# Altium schematic symbol library Schlib_Rockchip.SchLib: 4 symbols
Pins are listed as number, name and electrical type; pins without a type are passive.

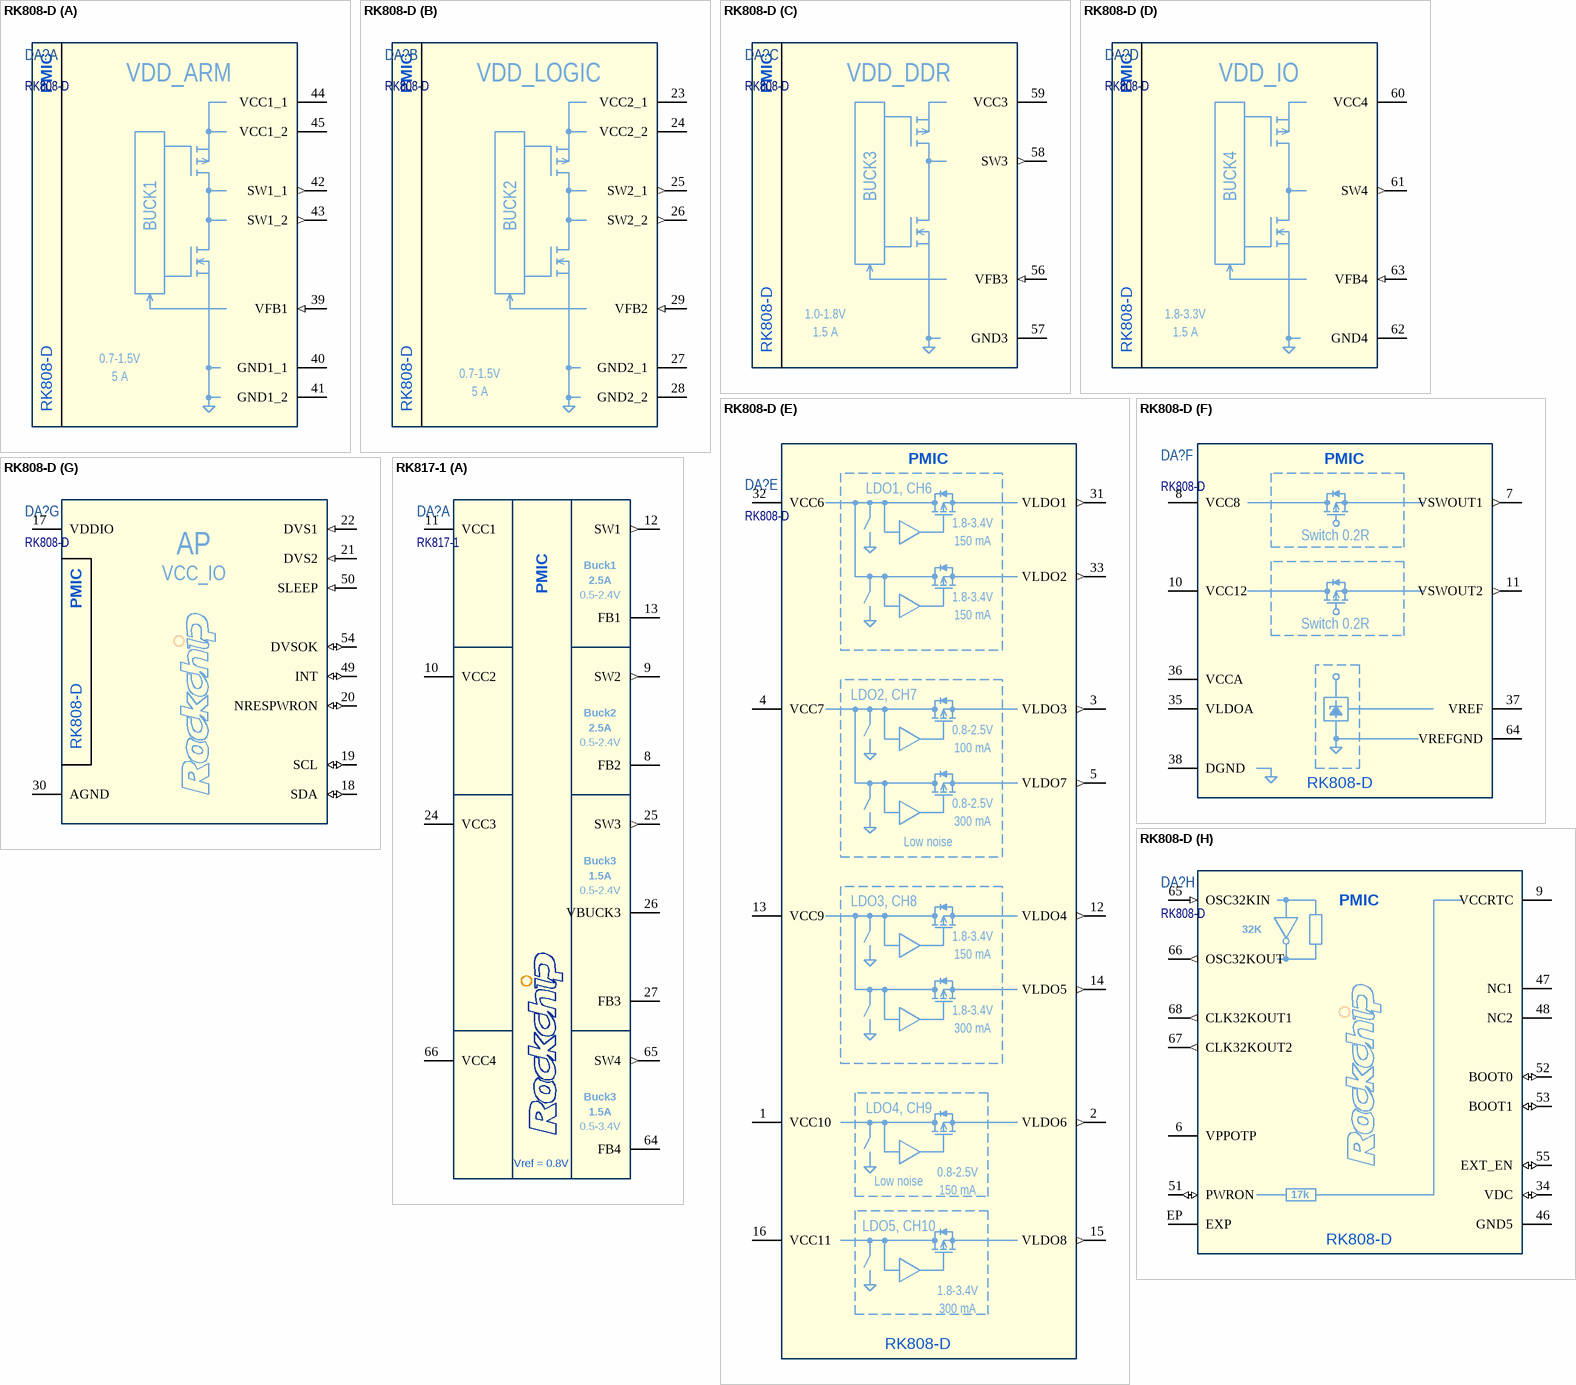
[diagram p0: symbols RK808-D to RK817-1]

## RK808-D
designator DA?
PMIC; Manufacturer: Fuzhou Rockchip Electronics Co; Part Number: RK808-D; Package: QFN-68 (p = 0.35mm)
footprint QFN68_RK8xx (Power QFN 7mm x 7mm, 0.35mm pitch, for RockChip PMIC RK8xx)
part A pins: 39 VFB1 (in), 40 GND1_1 (power), 41 GND1_2 (power), 42 SW1_1 (out), 43 SW1_2 (out), 44 VCC1_1 (power), 45 VCC1_2 (power)
part B pins: 23 VCC2_1 (power), 24 VCC2_2 (power), 25 SW2_1 (out), 26 SW2_2 (out), 27 GND2_1 (power), 28 GND2_2 (power), 29 VFB2 (in)
part C pins: 56 VFB3 (in), 57 GND3 (power), 58 SW3 (out), 59 VCC3 (power)
part D pins: 60 VCC4 (power), 61 SW4 (out), 62 GND4 (power), 63 VFB4 (in)
part E pins: 1 VCC10 (power), 2 VLDO6 (out), 3 VLDO3 (out), 4 VCC7 (power), 5 VLDO7 (out), 12 VLDO4 (out), 13 VCC9 (power), 14 VLDO5 (out), 15 VLDO8 (out), 16 VCC11 (power), 31 VLDO1 (out), 32 VCC6 (power), 33 VLDO2 (out)
part F pins: 7 VSWOUT1 (out), 8 VCC8 (power), 10 VCC12 (power), 11 VSWOUT2 (out), 35 VLDOA (power), 36 VCCA (power), 37 VREF (power), 38 DGND (power), 64 VREFGND (power)
part G pins: 17 VDDIO (power), 18 SDA (io), 19 SCL (io), 20 NRESPWRON (io), 21 DVS2 (in), 22 DVS1 (in), 30 AGND (power), 49 INT (io), 50 SLEEP (in), 54 DVSOK (io)
part H pins: 6 VPPOTP (power), 9 VCCRTC (power), 34 VDC (io), 46 GND5 (power), 47 NC1 (hiz), 48 NC2 (hiz), 51 PWRON (io), 52 BOOT0 (io), 53 BOOT1 (io), 55 EXT_EN (io), 65 OSC32KIN (in), 66 OSC32KOUT (out), 67 CLK32KOUT2 (out), 68 CLK32KOUT1 (out), EP EXP (power)
part A text: VDD_ARM; BUCK1; 5 A; 0.7-1.5V
part B text: VDD_LOGIC; BUCK2; 5 A; 0.7-1.5V
part C text: VDD_DDR; BUCK3; 1.5 A; 1.0-1.8V
part D text: VDD_IO; BUCK4; 1.5 A; 1.8-3.3V
part E text: LDO1, CH6; 150 mA; 1.8-3.4V; LDO2, CH7; 100 mA; 0.8-2.5V; 300 mA; Low noise; LDO3, CH8; LDO4, CH9; LDO5, CH10
part F text: Switch 0.2R
part G text: AP; VCC_IO
part H text: 32K; 17k

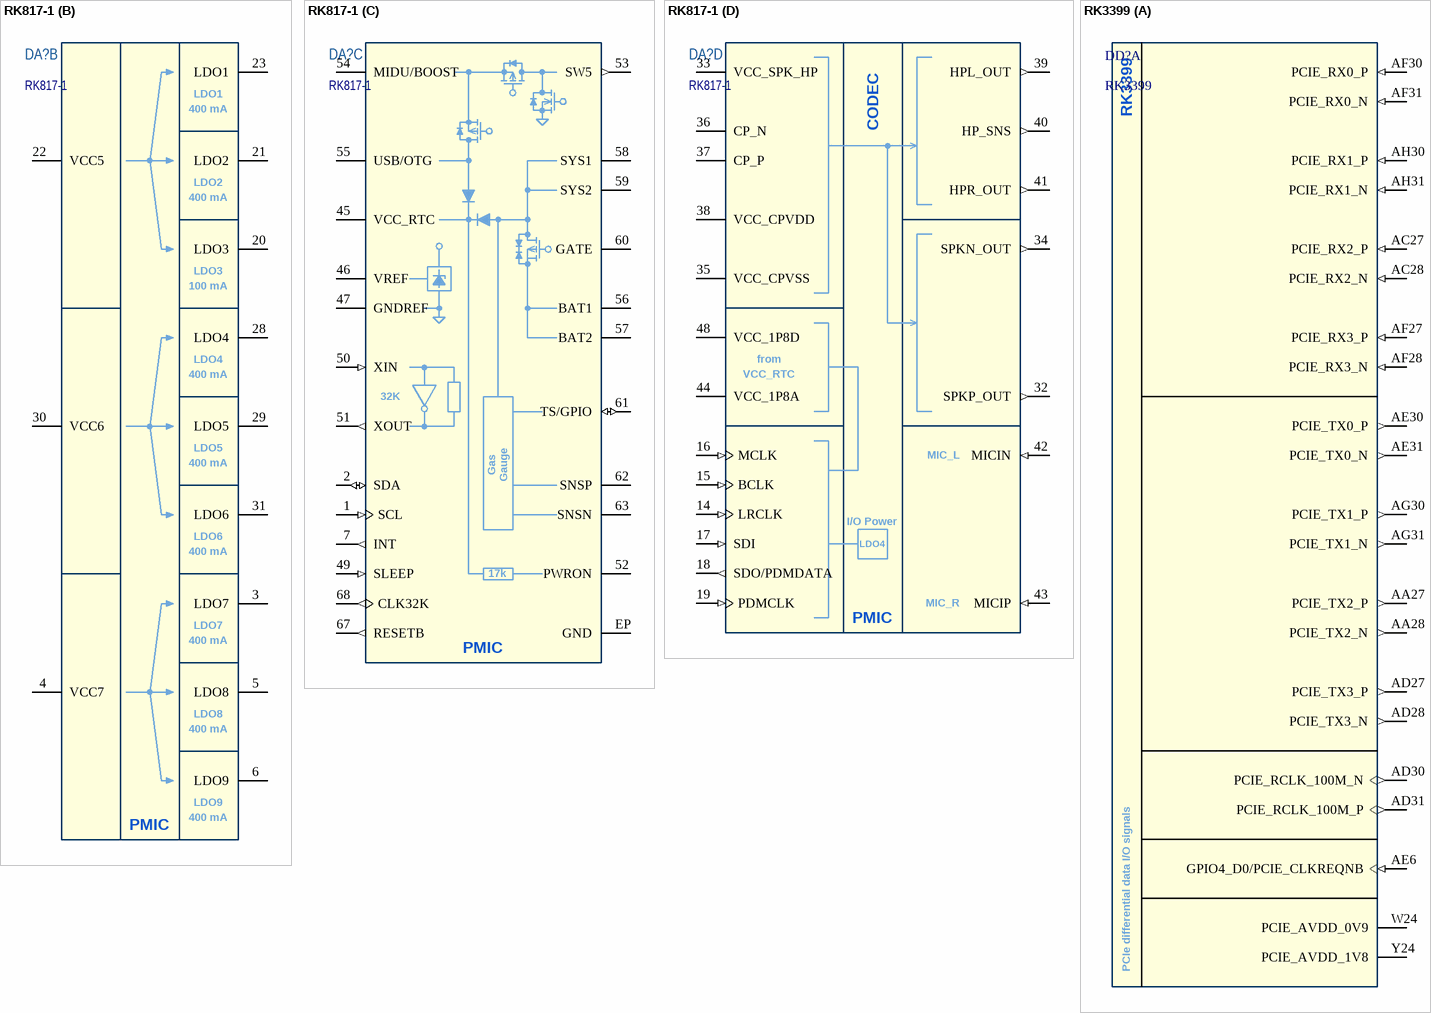
[diagram p1: symbols RK817-1 to RK3399]

## RK817-1
designator DA?
PMIC; Manufacturer: Fuzhou Rockchip Electronics Co; Part Number: RK817-1; Package: QFN-68 (p = 0.35mm)
footprint QFN68_RK8xx (Power QFN 7mm x 7mm, 0.35mm pitch, for RockChip PMIC RK8xx)
part A pins: 8 FB2, 9 SW2 (out), 10 VCC2 (power), 11 VCC1 (power), 12 SW1 (out), 13 FB1, 24 VCC3 (power), 25 SW3 (out), 26 VBUCK3, 27 FB3, 64 FB4, 65 SW4 (out), 66 VCC4 (power)
part B pins: 3 LDO7 (power), 4 VCC7 (power), 5 LDO8 (power), 6 LDO9 (power), 20 LDO3 (power), 21 LDO2 (power), 22 VCC5 (power), 23 LDO1 (power), 28 LDO4 (power), 29 LDO5 (power), 30 VCC6 (power), 31 LDO6 (power)
part C pins: 1 SCL (in), 2 SDA (io), 7 INT (out), 45 VCC_RTC (power), 46 VREF, 47 GNDREF, 49 SLEEP (in), 50 XIN (in), 51 XOUT (out), 52 PWRON, 53 SW5 (out), 54 MIDU/BOOST (power), 55 USB/OTG (power), 56 BAT1 (power), 57 BAT2 (power), 58 SYS1 (power), 59 SYS2 (power), 60 GATE, 61 TS/GPIO (io), 62 SNSP, 63 SNSN, 67 RESETB (out), 68 CLK32K (out), EP GND (power)
part D pins: 14 LRCLK (in), 15 BCLK (in), 16 MCLK (in), 17 SDI (in), 18 SDO/PDMDATA (out), 19 PDMCLK (in), 32 SPKP_OUT (out), 33 VCC_SPK_HP (power), 34 SPKN_OUT (out), 35 VCC_CPVSS (power), 36 CP_N, 37 CP_P, 38 VCC_CPVDD (power), 39 HPL_OUT (out), 40 HP_SNS (out), 41 HPR_OUT (out), 42 MICIN (in), 43 MICIP (in), 44 VCC_1P8A (power), 48 VCC_1P8D (power)
part A text: 2.5A; Buck1; 0.5-2.4V; Buck2; 1.5A; Buck3; 0.5-3.4V; Vref = 0.8V
part B text: 400 mA; 100 mA
part C text: 32K; Gas; Gauge; 17k
part D text: CODEC; from; MIC_L; I/O Power; MIC_R

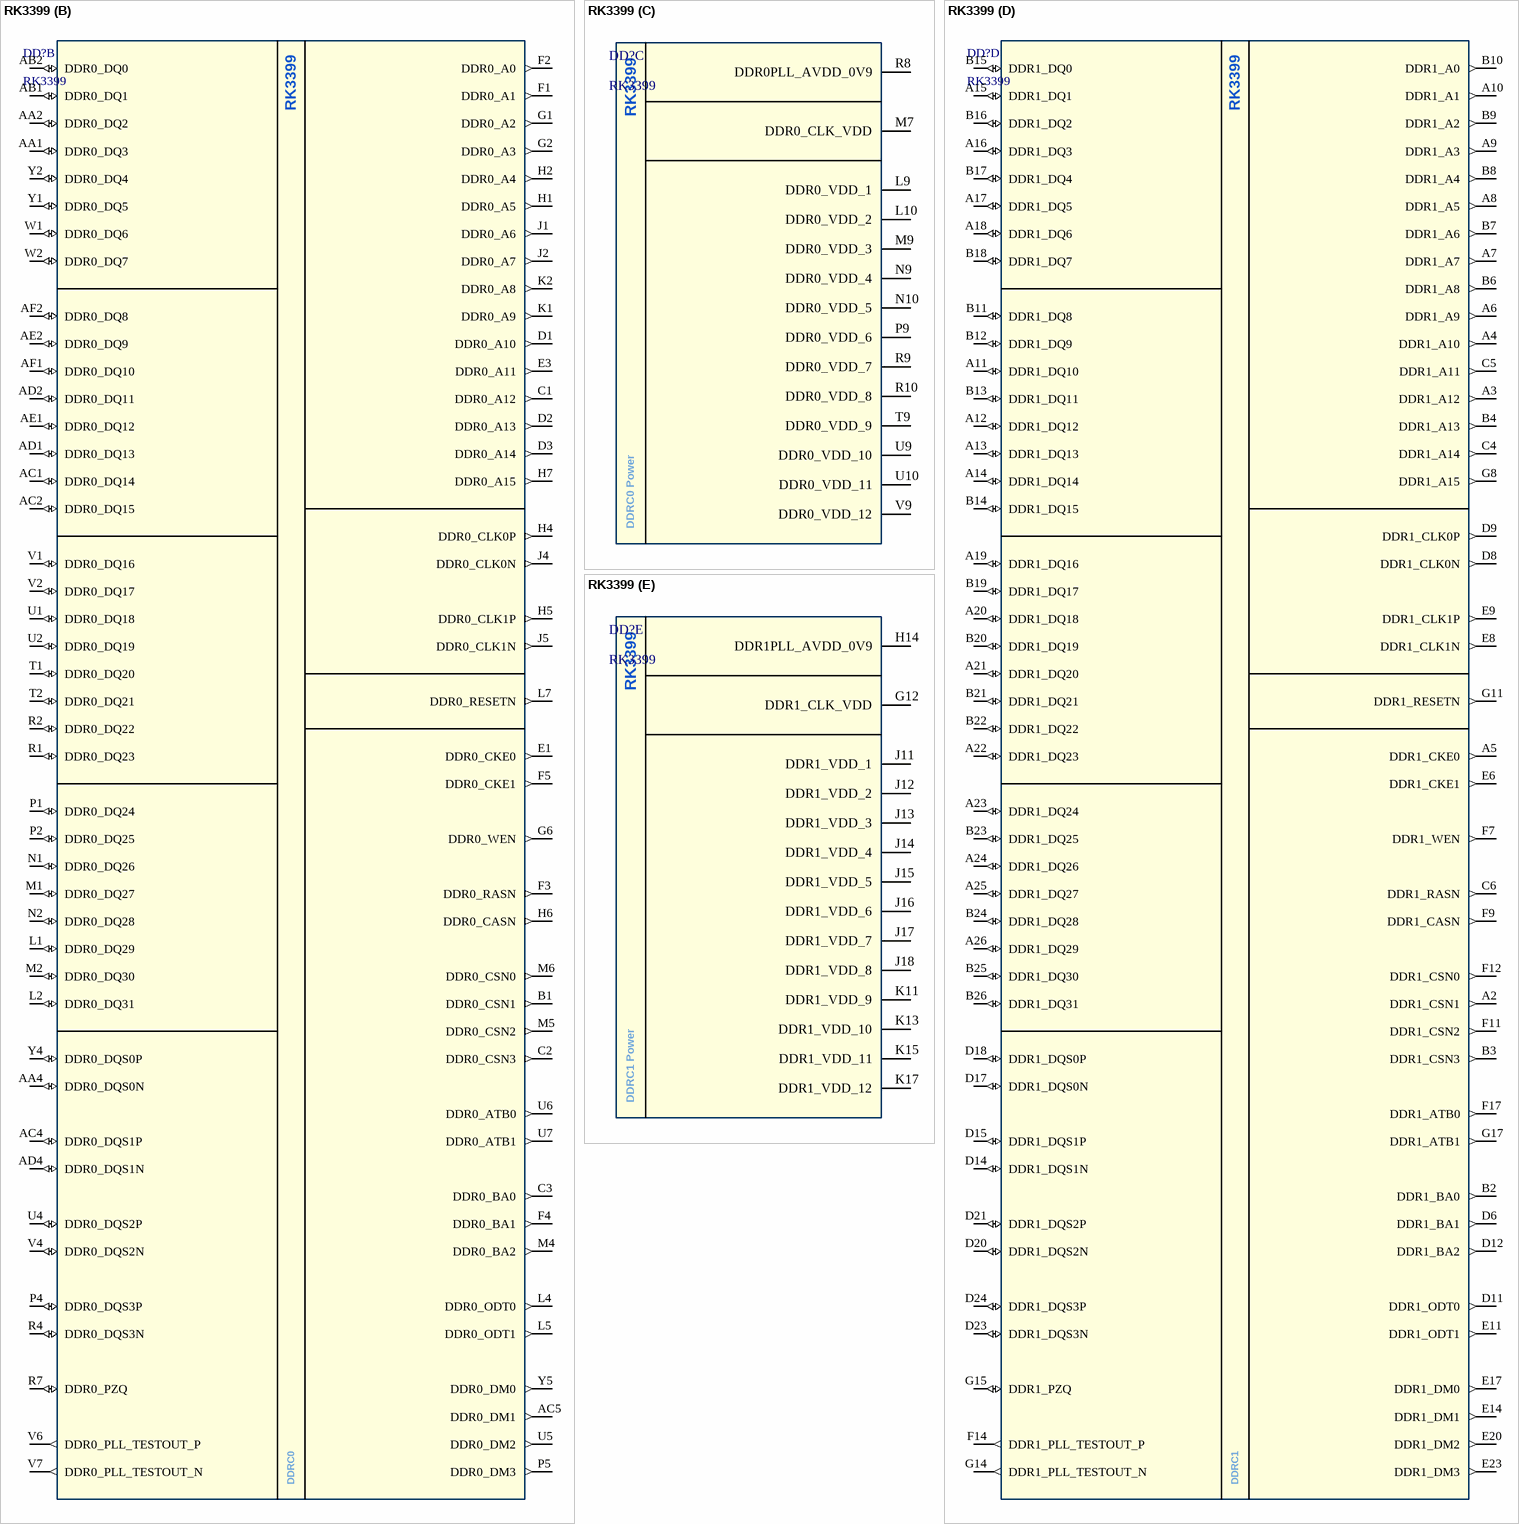
[diagram p2: symbol RK3399]

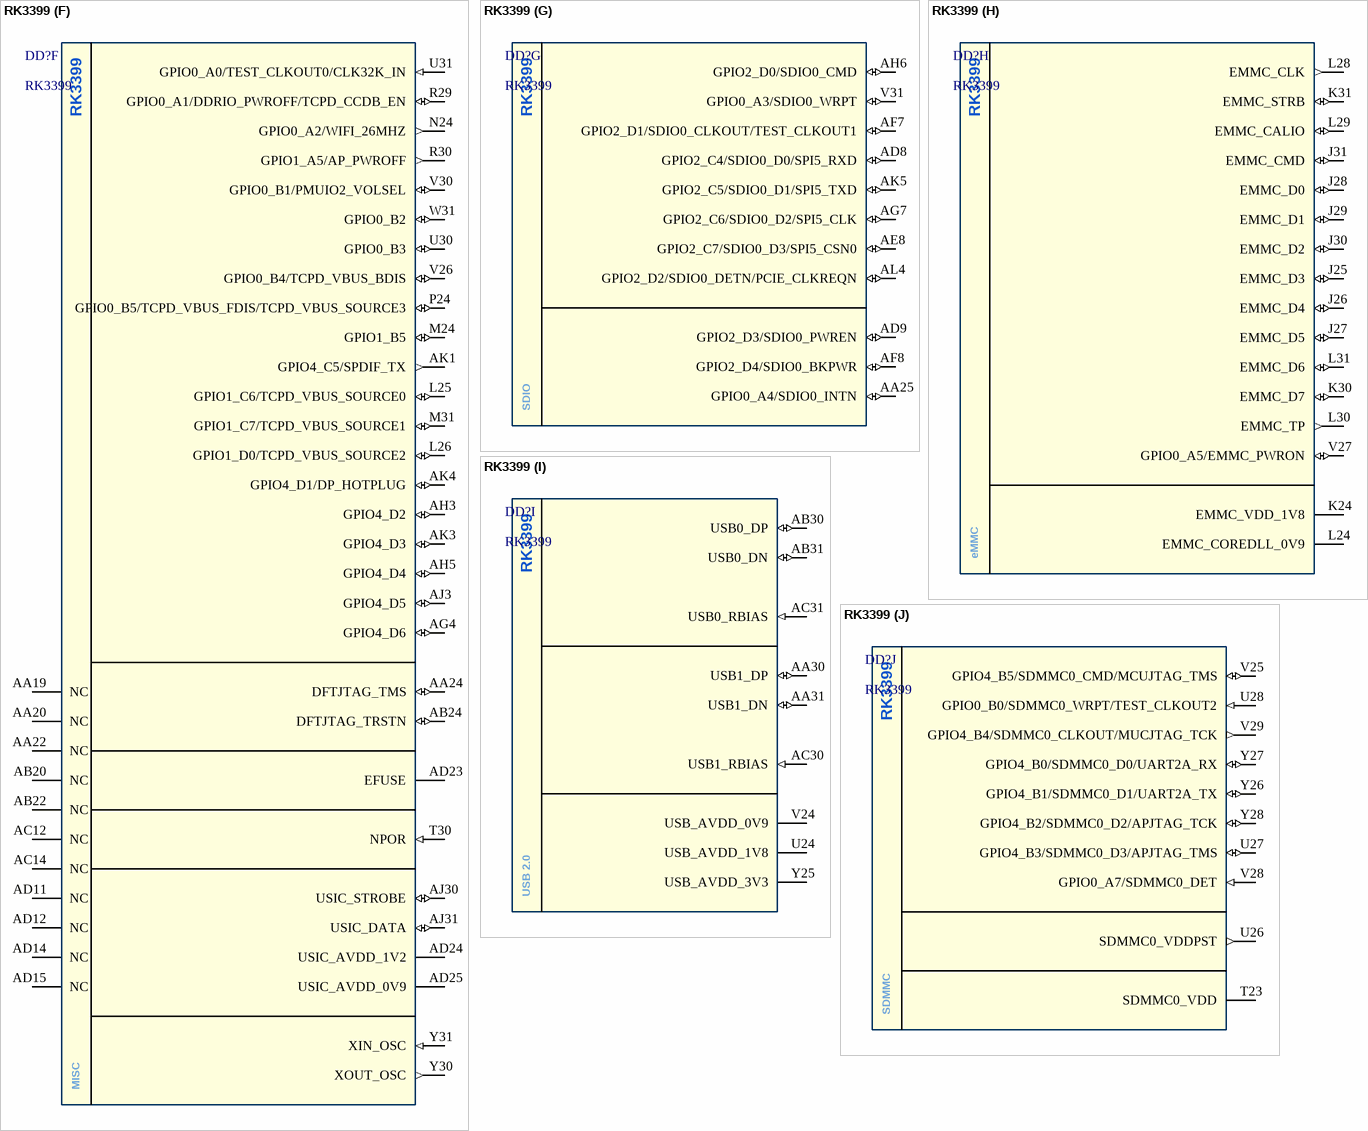
[diagram p3: symbol RK3399]

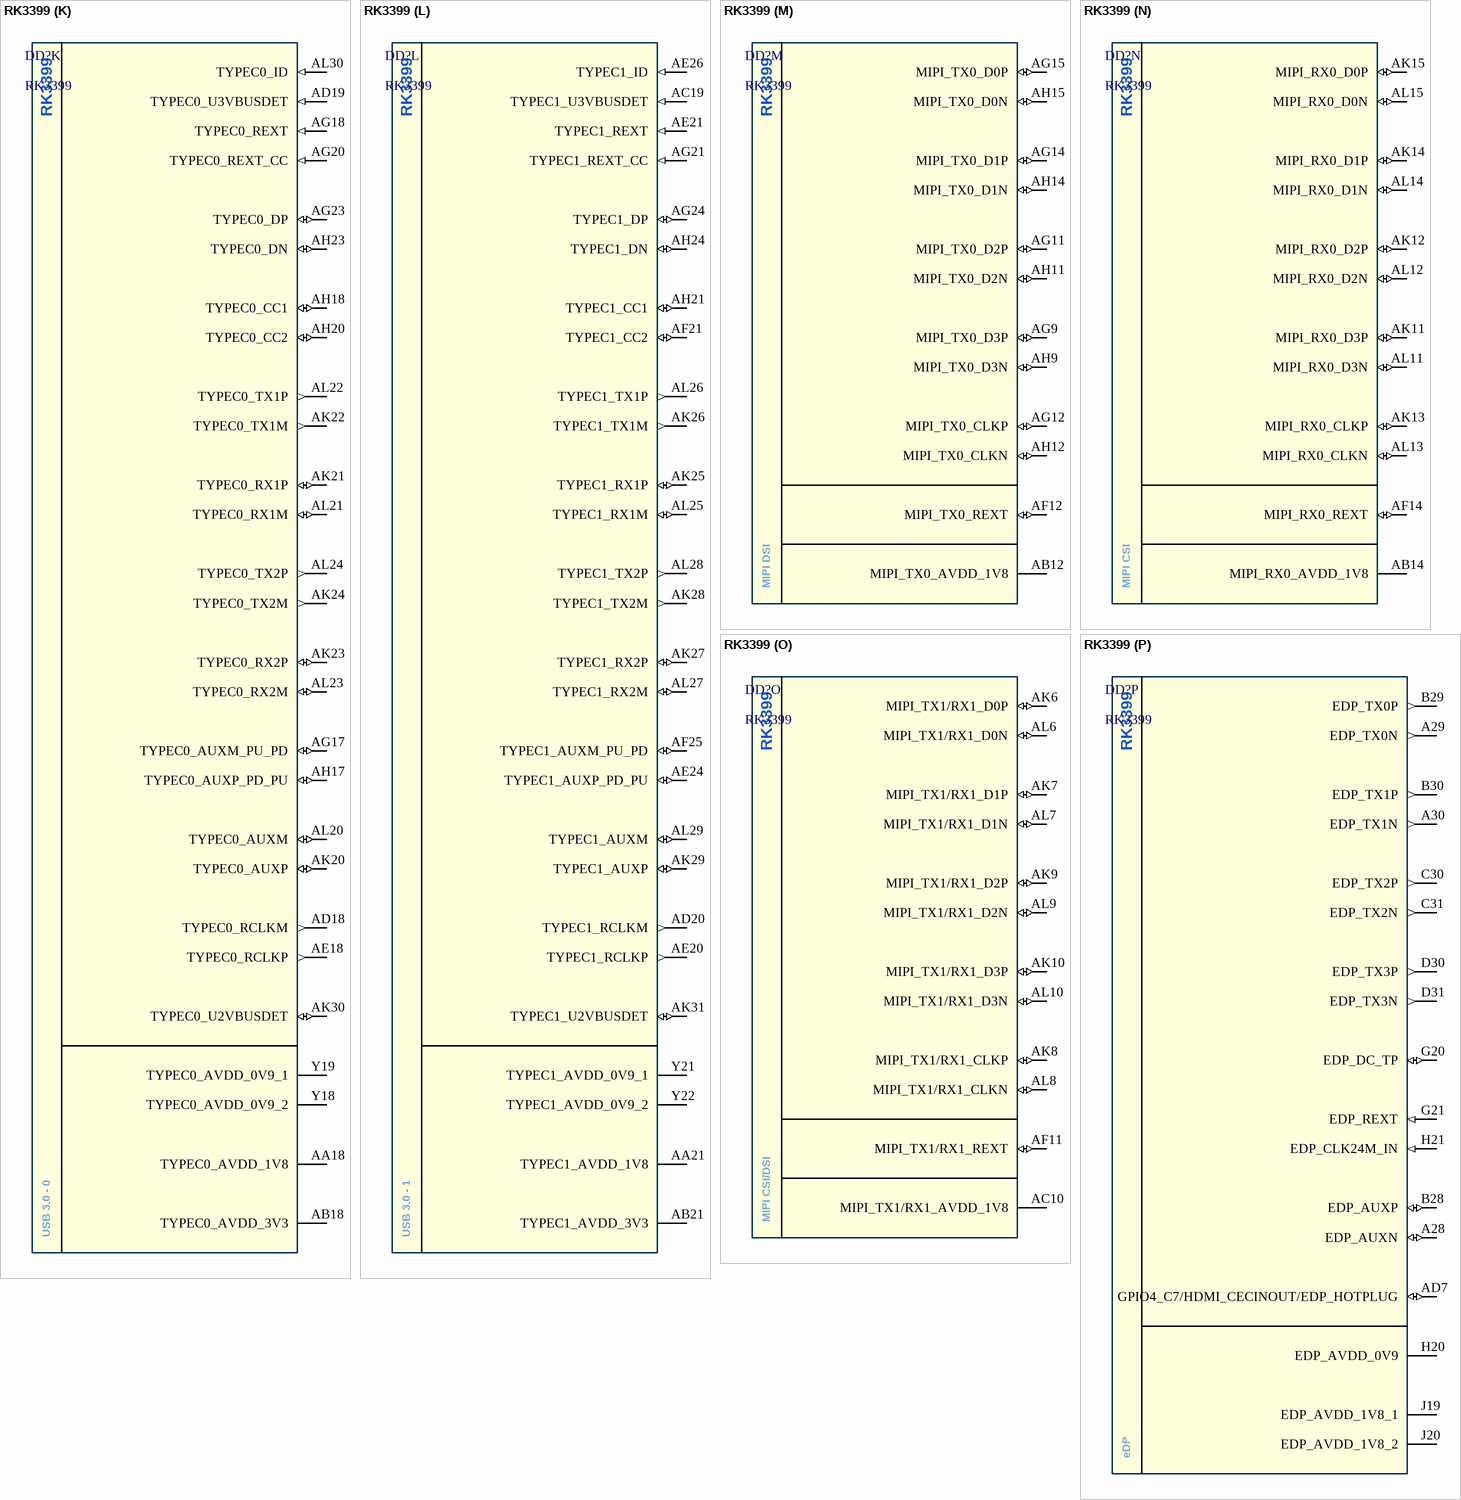
[diagram p4: symbol RK3399]

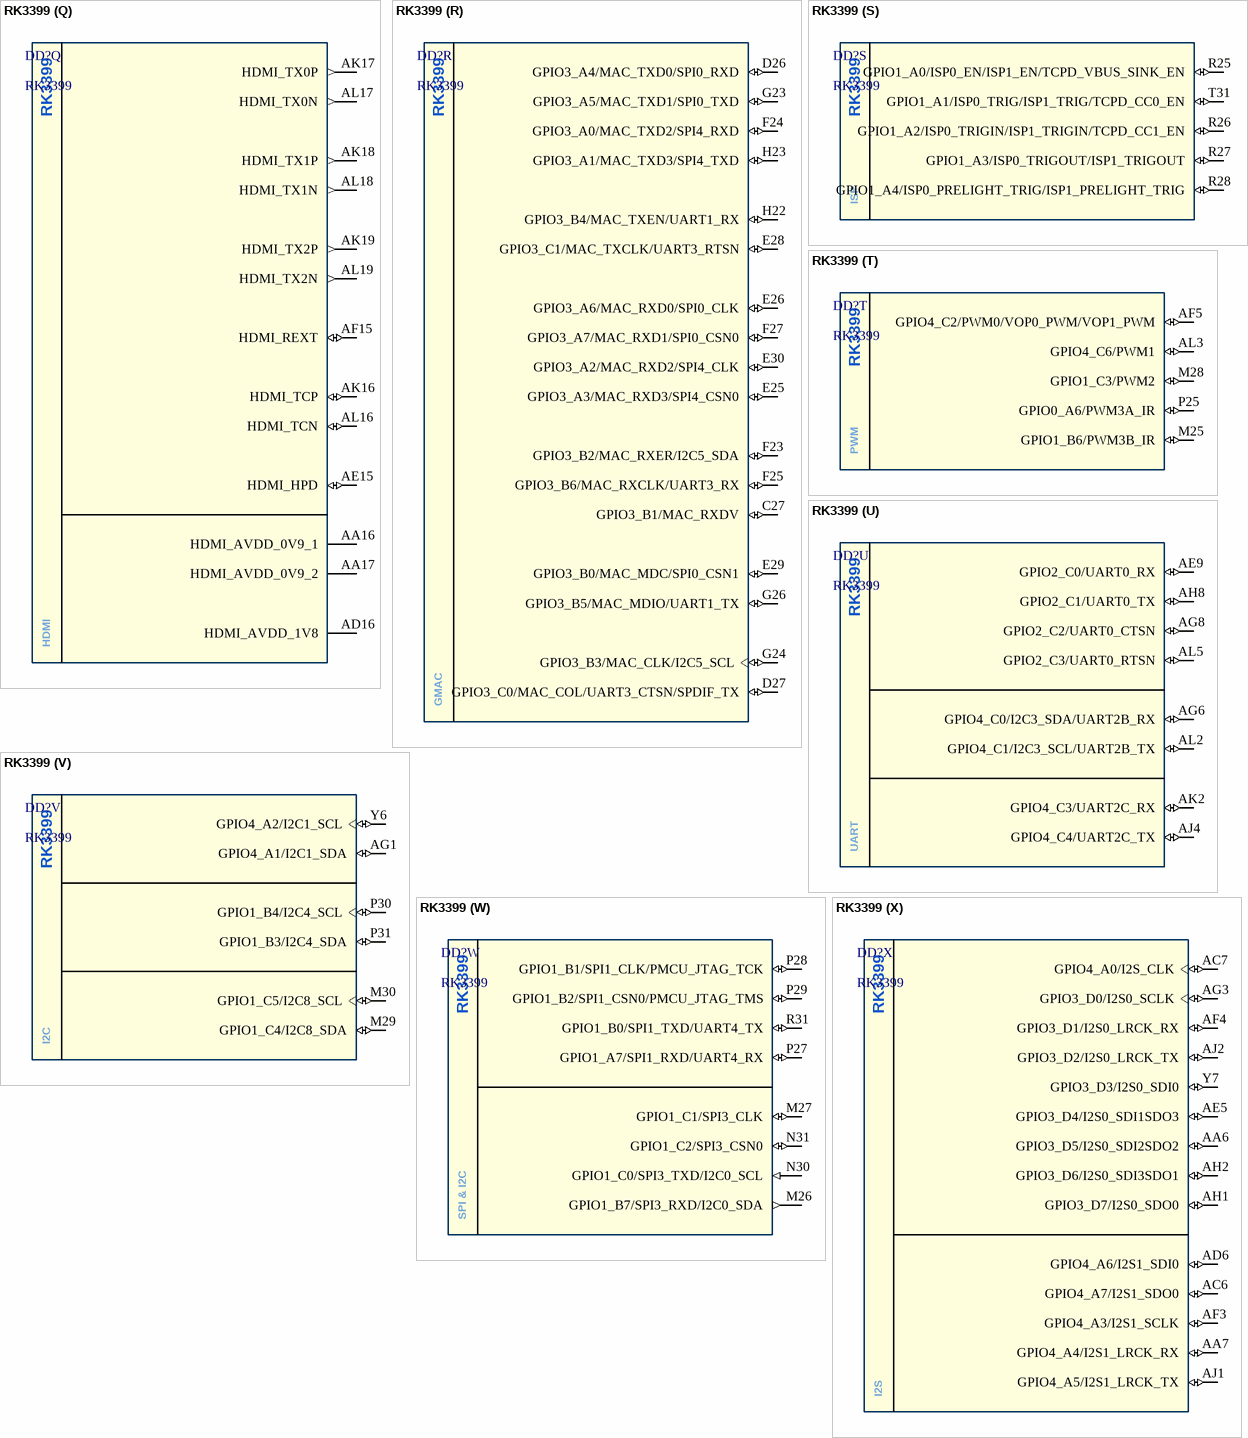
[diagram p5: symbol RK3399]

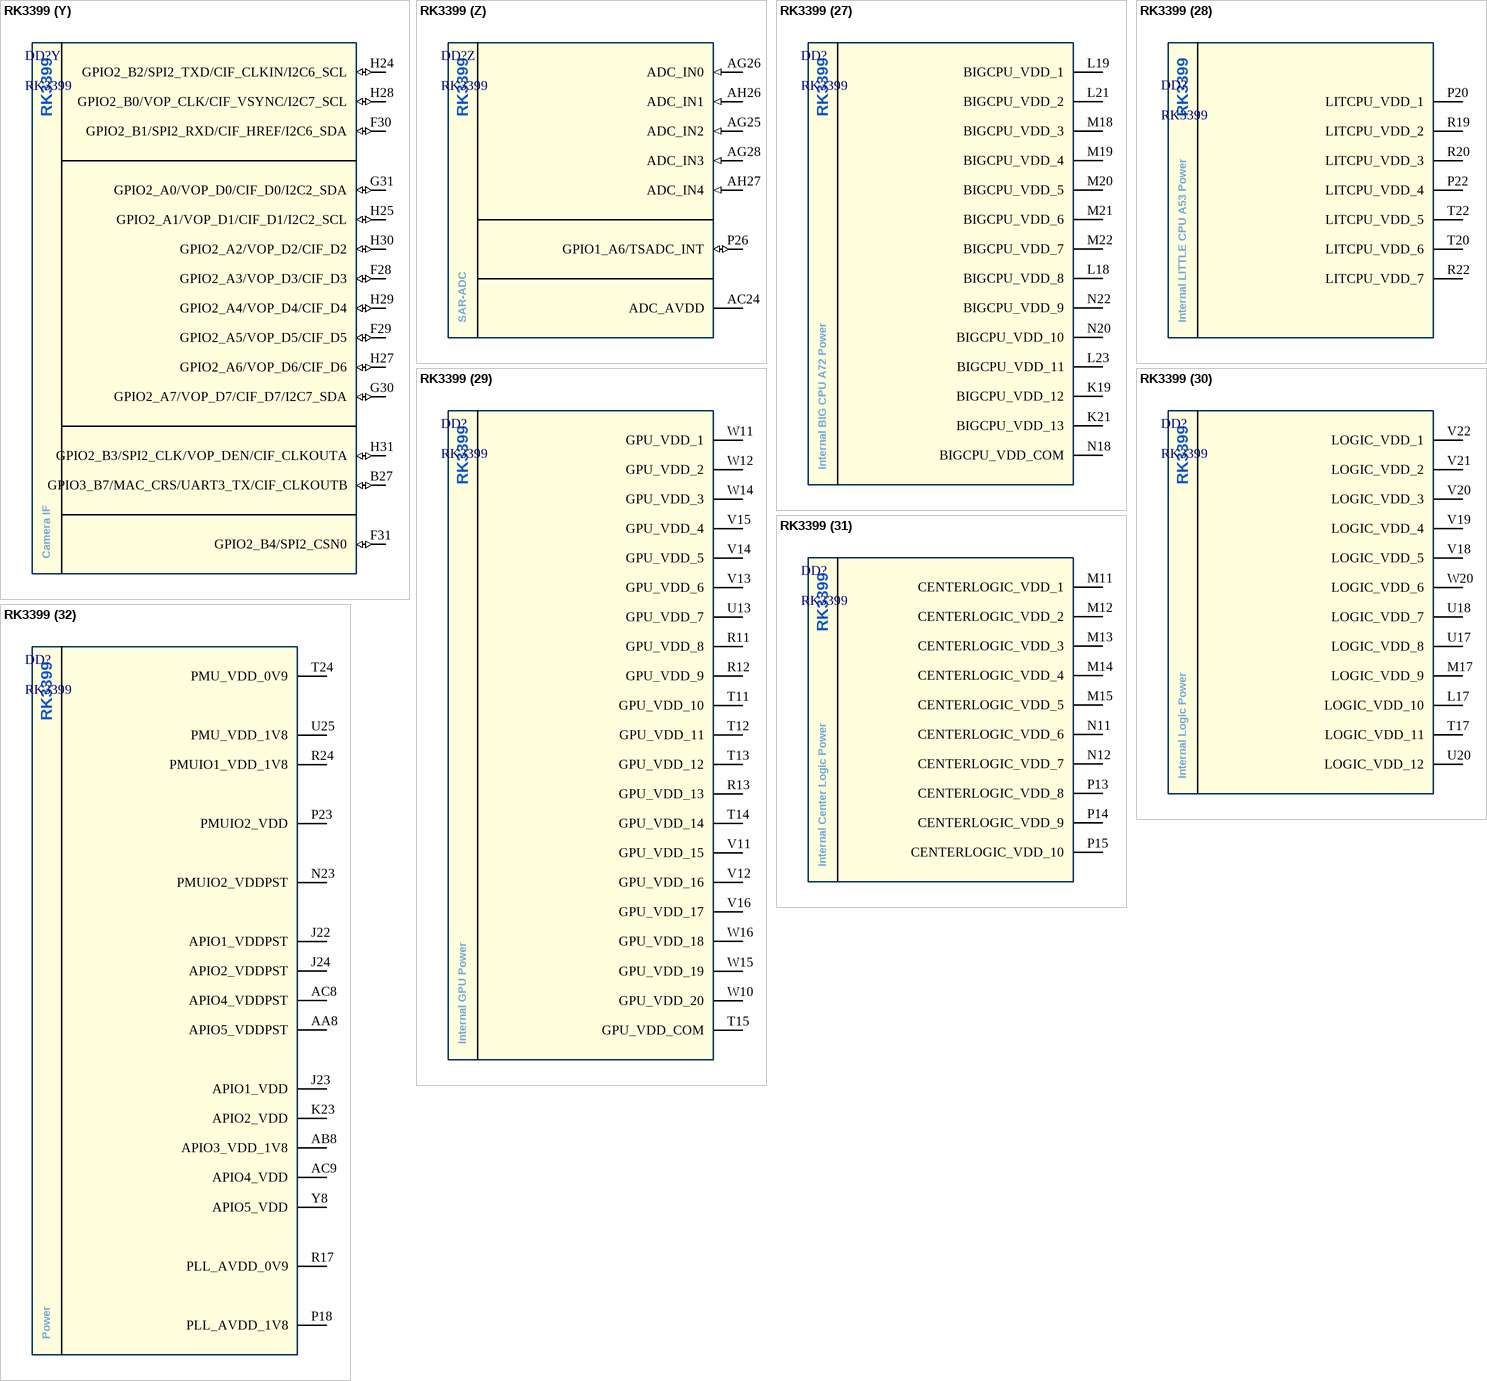
[diagram p6: symbol RK3399]

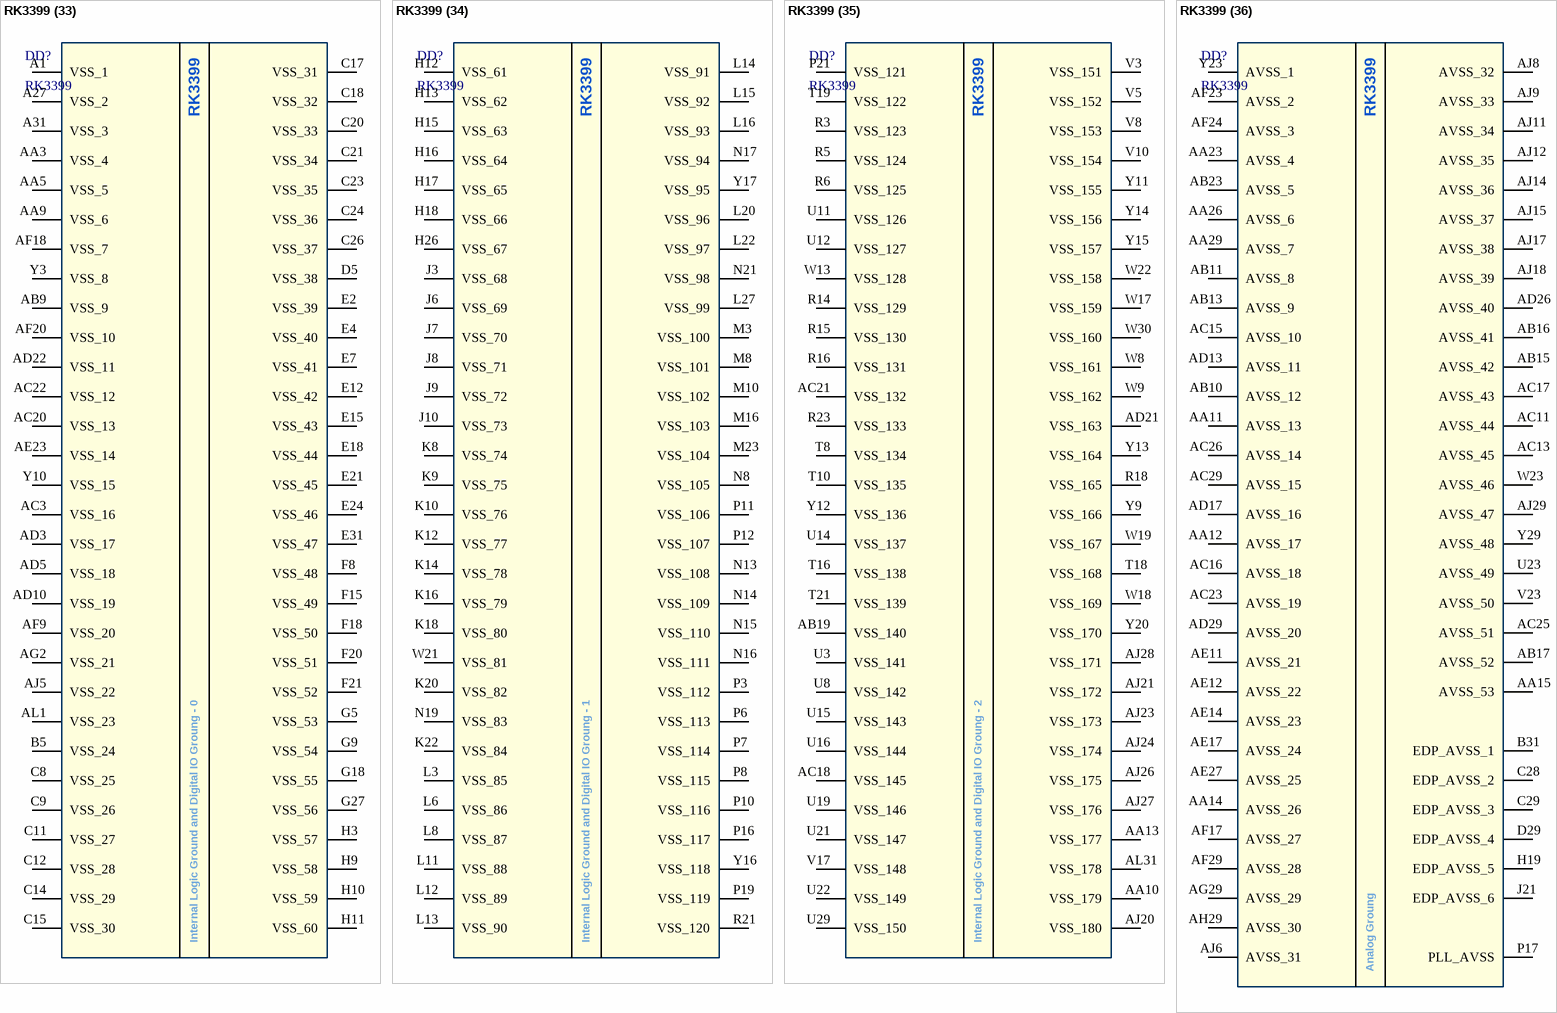
[diagram p7: symbol RK3399]

## RK3399
designator DD?
Quad Cortex A53 and Dual Cortex A72 Embedded CPU; Manufacturer: Fuzhou Rockchip Electronics Co; Package: FCBGA-828; Part Number: RK3399
footprint FCBGA828_RK3399
part A pins: AA27 PCIE_TX2_P (out), AA28 PCIE_TX2_N (out), AC27 PCIE_RX2_P (in), AC28 PCIE_RX2_N (in), AD27 PCIE_TX3_P (out), AD28 PCIE_TX3_N (out), AD30 PCIE_RCLK_100M_N (out), AD31 PCIE_RCLK_100M_P (out), AE6 GPIO4_D0/PCIE_CLKREQNB (in), AE30 PCIE_TX0_P (out), AE31 PCIE_TX0_N (out), AF27 PCIE_RX3_P (in), AF28 PCIE_RX3_N (in), AF30 PCIE_RX0_P (in), AF31 PCIE_RX0_N (in), AG30 PCIE_TX1_P (out), AG31 PCIE_TX1_N (out), AH30 PCIE_RX1_P (in), AH31 PCIE_RX1_N (in), W24 PCIE_AVDD_0V9 (power), Y24 PCIE_AVDD_1V8 (power)
part B pins: AA1 DDR0_DQ3 (io), AA2 DDR0_DQ2 (io), AA4 DDR0_DQS0N (io), AB1 DDR0_DQ1 (io), AB2 DDR0_DQ0 (io), AC1 DDR0_DQ14 (io), AC2 DDR0_DQ15 (io), AC4 DDR0_DQS1P (io), AC5 DDR0_DM1 (out), AD1 DDR0_DQ13 (io), AD2 DDR0_DQ11 (io), AD4 DDR0_DQS1N (io), AE1 DDR0_DQ12 (io), AE2 DDR0_DQ9 (io), AF1 DDR0_DQ10 (io), AF2 DDR0_DQ8 (io), B1 DDR0_CSN1 (out), C1 DDR0_A12 (out), C2 DDR0_CSN3 (out), C3 DDR0_BA0 (out), D1 DDR0_A10 (out), D2 DDR0_A13 (out), D3 DDR0_A14 (out), E1 DDR0_CKE0 (out), E3 DDR0_A11 (out), F1 DDR0_A1 (out), F2 DDR0_A0 (out), F3 DDR0_RASN (out), F4 DDR0_BA1 (out), F5 DDR0_CKE1 (out), G1 DDR0_A2 (out), G2 DDR0_A3 (out), G6 DDR0_WEN (out), H1 DDR0_A5 (out), H2 DDR0_A4 (out), H4 DDR0_CLK0P (out), H5 DDR0_CLK1P (out), H6 DDR0_CASN (out), H7 DDR0_A15 (out), J1 DDR0_A6 (out), J2 DDR0_A7 (out), J4 DDR0_CLK0N (out), J5 DDR0_CLK1N (out), K1 DDR0_A9 (out), K2 DDR0_A8 (out), L1 DDR0_DQ29 (io), L2 DDR0_DQ31 (io), L4 DDR0_ODT0 (out), L5 DDR0_ODT1 (out), L7 DDR0_RESETN (out), M1 DDR0_DQ27 (io), M2 DDR0_DQ30 (io), M4 DDR0_BA2 (out), M5 DDR0_CSN2 (out), M6 DDR0_CSN0 (out), N1 DDR0_DQ26 (io), N2 DDR0_DQ28 (io), P1 DDR0_DQ24 (io), P2 DDR0_DQ25 (io), P4 DDR0_DQS3P (io), P5 DDR0_DM3 (out), R1 DDR0_DQ23 (io), R2 DDR0_DQ22 (io), R4 DDR0_DQS3N (io), R7 DDR0_PZQ (io), T1 DDR0_DQ20 (io), T2 DDR0_DQ21 (io), U1 DDR0_DQ18 (io), U2 DDR0_DQ19 (io), U4 DDR0_DQS2P (io), U5 DDR0_DM2 (out), U6 DDR0_ATB0 (out), U7 DDR0_ATB1 (out), V1 DDR0_DQ16 (io), V2 DDR0_DQ17 (io), V4 DDR0_DQS2N (io), V6 DDR0_PLL_TESTOUT_P (out), V7 DDR0_PLL_TESTOUT_N (out), W1 DDR0_DQ6 (io), W2 DDR0_DQ7 (io), Y1 DDR0_DQ5 (io), Y2 DDR0_DQ4 (io), Y4 DDR0_DQS0P (io), Y5 DDR0_DM0 (out)
part C pins: L9 DDR0_VDD_1 (power), L10 DDR0_VDD_2 (power), M7 DDR0_CLK_VDD (power), M9 DDR0_VDD_3 (power), N9 DDR0_VDD_4 (power), N10 DDR0_VDD_5 (power), P9 DDR0_VDD_6 (power), R8 DDR0PLL_AVDD_0V9 (power), R9 DDR0_VDD_7 (power), R10 DDR0_VDD_8 (power), T9 DDR0_VDD_9 (power), U9 DDR0_VDD_10 (power), U10 DDR0_VDD_11 (power), V9 DDR0_VDD_12 (power)
part D pins: A2 DDR1_CSN1 (out), A3 DDR1_A12 (out), A4 DDR1_A10 (out), A5 DDR1_CKE0 (out), A6 DDR1_A9 (out), A7 DDR1_A7 (out), A8 DDR1_A5 (out), A9 DDR1_A3 (out), A10 DDR1_A1 (out), A11 DDR1_DQ10 (io), A12 DDR1_DQ12 (io), A13 DDR1_DQ13 (io), A14 DDR1_DQ14 (io), A15 DDR1_DQ1 (io), A16 DDR1_DQ3 (io), A17 DDR1_DQ5 (io), A18 DDR1_DQ6 (io), A19 DDR1_DQ16 (io), A20 DDR1_DQ18 (io), A21 DDR1_DQ20 (io), A22 DDR1_DQ23 (io), A23 DDR1_DQ24 (io), A24 DDR1_DQ26 (io), A25 DDR1_DQ27 (io), A26 DDR1_DQ29 (io), B2 DDR1_BA0 (out), B3 DDR1_CSN3 (out), B4 DDR1_A13 (out), B6 DDR1_A8 (out), B7 DDR1_A6 (out), B8 DDR1_A4 (out), B9 DDR1_A2 (out), B10 DDR1_A0 (out), B11 DDR1_DQ8 (io), B12 DDR1_DQ9 (io), B13 DDR1_DQ11 (io), B14 DDR1_DQ15 (io), B15 DDR1_DQ0 (io), B16 DDR1_DQ2 (io), B17 DDR1_DQ4 (io), B18 DDR1_DQ7 (io), B19 DDR1_DQ17 (io), B20 DDR1_DQ19 (io), B21 DDR1_DQ21 (io), B22 DDR1_DQ22 (io), B23 DDR1_DQ25 (io), B24 DDR1_DQ28 (io), B25 DDR1_DQ30 (io), B26 DDR1_DQ31 (io), C4 DDR1_A14 (out), C5 DDR1_A11 (out), C6 DDR1_RASN (out), D6 DDR1_BA1 (out), D8 DDR1_CLK0N (out), D9 DDR1_CLK0P (out), D11 DDR1_ODT0 (out), D12 DDR1_BA2 (out), D14 DDR1_DQS1N (io), D15 DDR1_DQS1P (io), D17 DDR1_DQS0N (io), D18 DDR1_DQS0P (io), D20 DDR1_DQS2N (io), D21 DDR1_DQS2P (io), D23 DDR1_DQS3N (io), D24 DDR1_DQS3P (io), E6 DDR1_CKE1 (out), E8 DDR1_CLK1N (out), E9 DDR1_CLK1P (out), E11 DDR1_ODT1 (out), E14 DDR1_DM1 (out), E17 DDR1_DM0 (out), E20 DDR1_DM2 (out), E23 DDR1_DM3 (out), F7 DDR1_WEN (out), F9 DDR1_CASN (out), F11 DDR1_CSN2 (out), F12 DDR1_CSN0 (out), F14 DDR1_PLL_TESTOUT_P (out), F17 DDR1_ATB0 (out), G8 DDR1_A15 (out), G11 DDR1_RESETN (out), G14 DDR1_PLL_TESTOUT_N (out), G15 DDR1_PZQ (io), G17 DDR1_ATB1 (out)
part E pins: G12 DDR1_CLK_VDD (power), H14 DDR1PLL_AVDD_0V9 (power), J11 DDR1_VDD_1 (power), J12 DDR1_VDD_2 (power), J13 DDR1_VDD_3 (power), J14 DDR1_VDD_4 (power), J15 DDR1_VDD_5 (power), J16 DDR1_VDD_6 (power), J17 DDR1_VDD_7 (power), J18 DDR1_VDD_8 (power), K11 DDR1_VDD_9 (power), K13 DDR1_VDD_10 (power), K15 DDR1_VDD_11 (power), K17 DDR1_VDD_12 (power)
part F pins: AA19 NC (hiz), AA20 NC (hiz), AA22 NC (hiz), AA24 DFTJTAG_TMS (io), AB20 NC (hiz), AB22 NC (hiz), AB24 DFTJTAG_TRSTN (io), AC12 NC (hiz), AC14 NC (hiz), AD11 NC (hiz), AD12 NC (hiz), AD14 NC (hiz), AD15 NC (hiz), AD23 EFUSE, AD24 USIC_AVDD_1V2 (power), AD25 USIC_AVDD_0V9 (power), AG4 GPIO4_D6 (io), AH3 GPIO4_D2 (io), AH5 GPIO4_D4 (io), AJ3 GPIO4_D5 (io), AJ30 USIC_STROBE (io), AJ31 USIC_DATA (io), AK1 GPIO4_C5/SPDIF_TX (out), AK3 GPIO4_D3 (io), AK4 GPIO4_D1/DP_HOTPLUG (io), L25 GPIO1_C6/TCPD_VBUS_SOURCE0 (io), L26 GPIO1_D0/TCPD_VBUS_SOURCE2 (io), M24 GPIO1_B5 (io), M31 GPIO1_C7/TCPD_VBUS_SOURCE1 (io), N24 GPIO0_A2/WIFI_26MHZ (out), P24 GPIO0_B5/TCPD_VBUS_FDIS/TCPD_VBUS_SOURCE3 (io), R29 GPIO0_A1/DDRIO_PWROFF/TCPD_CCDB_EN (io), R30 GPIO1_A5/AP_PWROFF (out), T30 NPOR (in), U30 GPIO0_B3 (io), U31 GPIO0_A0/TEST_CLKOUT0/CLK32K_IN (in), V26 GPIO0_B4/TCPD_VBUS_BDIS (io), V30 GPIO0_B1/PMUIO2_VOLSEL (io), W31 GPIO0_B2 (io), Y30 XOUT_OSC (out), Y31 XIN_OSC (in)
part G pins: AA25 GPIO0_A4/SDIO0_INTN (io), AD8 GPIO2_C4/SDIO0_D0/SPI5_RXD (io), AD9 GPIO2_D3/SDIO0_PWREN (io), AE8 GPIO2_C7/SDIO0_D3/SPI5_CSN0 (io), AF7 GPIO2_D1/SDIO0_CLKOUT/TEST_CLKOUT1 (io), AF8 GPIO2_D4/SDIO0_BKPWR (io), AG7 GPIO2_C6/SDIO0_D2/SPI5_CLK (io), AH6 GPIO2_D0/SDIO0_CMD (io), AK5 GPIO2_C5/SDIO0_D1/SPI5_TXD (io), AL4 GPIO2_D2/SDIO0_DETN/PCIE_CLKREQN (io), V31 GPIO0_A3/SDIO0_WRPT (io)
part H pins: J25 EMMC_D3 (io), J26 EMMC_D4 (io), J27 EMMC_D5 (io), J28 EMMC_D0 (io), J29 EMMC_D1 (io), J30 EMMC_D2 (io), J31 EMMC_CMD (io), K24 EMMC_VDD_1V8 (power), K30 EMMC_D7 (io), K31 EMMC_STRB (io), L24 EMMC_COREDLL_0V9 (power), L28 EMMC_CLK (out), L29 EMMC_CALIO (io), L30 EMMC_TP (out), L31 EMMC_D6 (io), V27 GPIO0_A5/EMMC_PWRON (io)
part I pins: AA30 USB1_DP (io), AA31 USB1_DN (io), AB30 USB0_DP (io), AB31 USB0_DN (io), AC30 USB1_RBIAS (in), AC31 USB0_RBIAS (in), U24 USB_AVDD_1V8 (power), V24 USB_AVDD_0V9 (power), Y25 USB_AVDD_3V3 (power)
part J pins: T23 SDMMC0_VDD (power), U26 SDMMC0_VDDPST (out), U27 GPIO4_B3/SDMMC0_D3/APJTAG_TMS (io), U28 GPIO0_B0/SDMMC0_WRPT/TEST_CLKOUT2 (in), V25 GPIO4_B5/SDMMC0_CMD/MCUJTAG_TMS (io), V28 GPIO0_A7/SDMMC0_DET (in), V29 GPIO4_B4/SDMMC0_CLKOUT/MUCJTAG_TCK (out), Y26 GPIO4_B1/SDMMC0_D1/UART2A_TX (io), Y27 GPIO4_B0/SDMMC0_D0/UART2A_RX (io), Y28 GPIO4_B2/SDMMC0_D2/APJTAG_TCK (io)
part K pins: AA18 TYPEC0_AVDD_1V8 (power), AB18 TYPEC0_AVDD_3V3 (power), AD18 TYPEC0_RCLKM (out), AD19 TYPEC0_U3VBUSDET (in), AE18 TYPEC0_RCLKP (out), AG17 TYPEC0_AUXM_PU_PD (io), AG18 TYPEC0_REXT (in), AG20 TYPEC0_REXT_CC (in), AG23 TYPEC0_DP (io), AH17 TYPEC0_AUXP_PD_PU (io), AH18 TYPEC0_CC1 (io), AH20 TYPEC0_CC2 (io), AH23 TYPEC0_DN (io), AK20 TYPEC0_AUXP (io), AK21 TYPEC0_RX1P (io), AK22 TYPEC0_TX1M (out), AK23 TYPEC0_RX2P (io), AK24 TYPEC0_TX2M (out), AK30 TYPEC0_U2VBUSDET (io), AL20 TYPEC0_AUXM (io), AL21 TYPEC0_RX1M (io), AL22 TYPEC0_TX1P (out), AL23 TYPEC0_RX2M (io), AL24 TYPEC0_TX2P (out), AL30 TYPEC0_ID (in), Y18 TYPEC0_AVDD_0V9_2 (power), Y19 TYPEC0_AVDD_0V9_1 (power)
part L pins: AA21 TYPEC1_AVDD_1V8 (power), AB21 TYPEC1_AVDD_3V3 (power), AC19 TYPEC1_U3VBUSDET (in), AD20 TYPEC1_RCLKM (out), AE20 TYPEC1_RCLKP (out), AE21 TYPEC1_REXT (in), AE24 TYPEC1_AUXP_PD_PU (io), AE26 TYPEC1_ID (in), AF21 TYPEC1_CC2 (io), AF25 TYPEC1_AUXM_PU_PD (io), AG21 TYPEC1_REXT_CC (in), AG24 TYPEC1_DP (io), AH21 TYPEC1_CC1 (io), AH24 TYPEC1_DN (io), AK25 TYPEC1_RX1P (io), AK26 TYPEC1_TX1M (out), AK27 TYPEC1_RX2P (io), AK28 TYPEC1_TX2M (out), AK29 TYPEC1_AUXP (io), AK31 TYPEC1_U2VBUSDET (io), AL25 TYPEC1_RX1M (io), AL26 TYPEC1_TX1P (out), AL27 TYPEC1_RX2M (io), AL28 TYPEC1_TX2P (out), AL29 TYPEC1_AUXM (io), Y21 TYPEC1_AVDD_0V9_1 (power), Y22 TYPEC1_AVDD_0V9_2 (power)
part M pins: AB12 MIPI_TX0_AVDD_1V8 (power), AF12 MIPI_TX0_REXT (io), AG9 MIPI_TX0_D3P (io), AG11 MIPI_TX0_D2P (io), AG12 MIPI_TX0_CLKP (io), AG14 MIPI_TX0_D1P (io), AG15 MIPI_TX0_D0P (io), AH9 MIPI_TX0_D3N (io), AH11 MIPI_TX0_D2N (io), AH12 MIPI_TX0_CLKN (io), AH14 MIPI_TX0_D1N (io), AH15 MIPI_TX0_D0N (io)
part N pins: AB14 MIPI_RX0_AVDD_1V8 (power), AF14 MIPI_RX0_REXT (io), AK11 MIPI_RX0_D3P (io), AK12 MIPI_RX0_D2P (io), AK13 MIPI_RX0_CLKP (io), AK14 MIPI_RX0_D1P (io), AK15 MIPI_RX0_D0P (io), AL11 MIPI_RX0_D3N (io), AL12 MIPI_RX0_D2N (io), AL13 MIPI_RX0_CLKN (io), AL14 MIPI_RX0_D1N (io), AL15 MIPI_RX0_D0N (io)
part O pins: AC10 MIPI_TX1/RX1_AVDD_1V8 (power), AF11 MIPI_TX1/RX1_REXT (io), AK6 MIPI_TX1/RX1_D0P (io), AK7 MIPI_TX1/RX1_D1P (io), AK8 MIPI_TX1/RX1_CLKP (io), AK9 MIPI_TX1/RX1_D2P (io), AK10 MIPI_TX1/RX1_D3P (io), AL6 MIPI_TX1/RX1_D0N (io), AL7 MIPI_TX1/RX1_D1N (io), AL8 MIPI_TX1/RX1_CLKN (io), AL9 MIPI_TX1/RX1_D2N (io), AL10 MIPI_TX1/RX1_D3N (io)
part P pins: A28 EDP_AUXN (io), A29 EDP_TX0N (out), A30 EDP_TX1N (out), AD7 GPIO4_C7/HDMI_CECINOUT/EDP_HOTPLUG (io), B28 EDP_AUXP (io), B29 EDP_TX0P (out), B30 EDP_TX1P (out), C30 EDP_TX2P (out), C31 EDP_TX2N (out), D30 EDP_TX3P (out), D31 EDP_TX3N (out), G20 EDP_DC_TP (io), G21 EDP_REXT (in), H20 EDP_AVDD_0V9 (power), H21 EDP_CLK24M_IN (in), J19 EDP_AVDD_1V8_1 (power), J20 EDP_AVDD_1V8_2 (power)
part Q pins: AA16 HDMI_AVDD_0V9_1 (power), AA17 HDMI_AVDD_0V9_2 (power), AD16 HDMI_AVDD_1V8 (power), AE15 HDMI_HPD (io), AF15 HDMI_REXT (io), AK16 HDMI_TCP (io), AK17 HDMI_TX0P (out), AK18 HDMI_TX1P (out), AK19 HDMI_TX2P (out), AL16 HDMI_TCN (io), AL17 HDMI_TX0N (out), AL18 HDMI_TX1N (out), AL19 HDMI_TX2N (out)
part R pins: C27 GPIO3_B1/MAC_RXDV (io), D26 GPIO3_A4/MAC_TXD0/SPI0_RXD (io), D27 GPIO3_C0/MAC_COL/UART3_CTSN/SPDIF_TX (io), E25 GPIO3_A3/MAC_RXD3/SPI4_CSN0 (io), E26 GPIO3_A6/MAC_RXD0/SPI0_CLK (io), E28 GPIO3_C1/MAC_TXCLK/UART3_RTSN (io), E29 GPIO3_B0/MAC_MDC/SPI0_CSN1 (io), E30 GPIO3_A2/MAC_RXD2/SPI4_CLK (io), F23 GPIO3_B2/MAC_RXER/I2C5_SDA (io), F24 GPIO3_A0/MAC_TXD2/SPI4_RXD (io), F25 GPIO3_B6/MAC_RXCLK/UART3_RX (io), F27 GPIO3_A7/MAC_RXD1/SPI0_CSN0 (io), G23 GPIO3_A5/MAC_TXD1/SPI0_TXD (io), G24 GPIO3_B3/MAC_CLK/I2C5_SCL (io), G26 GPIO3_B5/MAC_MDIO/UART1_TX (io), H22 GPIO3_B4/MAC_TXEN/UART1_RX (io), H23 GPIO3_A1/MAC_TXD3/SPI4_TXD (io)
part S pins: R25 GPIO1_A0/ISP0_EN/ISP1_EN/TCPD_VBUS_SINK_EN (io), R26 GPIO1_A2/ISP0_TRIGIN/ISP1_TRIGIN/TCPD_CC1_EN (io), R27 GPIO1_A3/ISP0_TRIGOUT/ISP1_TRIGOUT (io), R28 GPIO1_A4/ISP0_PRELIGHT_TRIG/ISP1_PRELIGHT_TRIG (io), T31 GPIO1_A1/ISP0_TRIG/ISP1_TRIG/TCPD_CC0_EN (io)
part T pins: AF5 GPIO4_C2/PWM0/VOP0_PWM/VOP1_PWM (io), AL3 GPIO4_C6/PWM1 (io), M25 GPIO1_B6/PWM3B_IR (io), M28 GPIO1_C3/PWM2 (io), P25 GPIO0_A6/PWM3A_IR (io)
part U pins: AE9 GPIO2_C0/UART0_RX (io), AG6 GPIO4_C0/I2C3_SDA/UART2B_RX (io), AG8 GPIO2_C2/UART0_CTSN (io), AH8 GPIO2_C1/UART0_TX (io), AJ4 GPIO4_C4/UART2C_TX (io), AK2 GPIO4_C3/UART2C_RX (io), AL2 GPIO4_C1/I2C3_SCL/UART2B_TX (io), AL5 GPIO2_C3/UART0_RTSN (io)
part V pins: AG1 GPIO4_A1/I2C1_SDA (io), M29 GPIO1_C4/I2C8_SDA (io), M30 GPIO1_C5/I2C8_SCL (io), P30 GPIO1_B4/I2C4_SCL (io), P31 GPIO1_B3/I2C4_SDA (io), Y6 GPIO4_A2/I2C1_SCL (io)
part W pins: M26 GPIO1_B7/SPI3_RXD/I2C0_SDA (out), M27 GPIO1_C1/SPI3_CLK (io), N30 GPIO1_C0/SPI3_TXD/I2C0_SCL (in), N31 GPIO1_C2/SPI3_CSN0 (io), P27 GPIO1_A7/SPI1_RXD/UART4_RX (io), P28 GPIO1_B1/SPI1_CLK/PMCU_JTAG_TCK (io), P29 GPIO1_B2/SPI1_CSN0/PMCU_JTAG_TMS (io), R31 GPIO1_B0/SPI1_TXD/UART4_TX (io)
part X pins: AA6 GPIO3_D5/I2S0_SDI2SDO2 (io), AA7 GPIO4_A4/I2S1_LRCK_RX (io), AC6 GPIO4_A7/I2S1_SDO0 (io), AC7 GPIO4_A0/I2S_CLK (io), AD6 GPIO4_A6/I2S1_SDI0 (io), AE5 GPIO3_D4/I2S0_SDI1SDO3 (io), AF3 GPIO4_A3/I2S1_SCLK (io), AF4 GPIO3_D1/I2S0_LRCK_RX (io), AG3 GPIO3_D0/I2S0_SCLK (io), AH1 GPIO3_D7/I2S0_SDO0 (io), AH2 GPIO3_D6/I2S0_SDI3SDO1 (io), AJ1 GPIO4_A5/I2S1_LRCK_TX (io), AJ2 GPIO3_D2/I2S0_LRCK_TX (io), Y7 GPIO3_D3/I2S0_SDI0 (io)
part Y pins: B27 GPIO3_B7/MAC_CRS/UART3_TX/CIF_CLKOUTB (io), F28 GPIO2_A3/VOP_D3/CIF_D3 (io), F29 GPIO2_A5/VOP_D5/CIF_D5 (io), F30 GPIO2_B1/SPI2_RXD/CIF_HREF/I2C6_SDA (io), F31 GPIO2_B4/SPI2_CSN0 (io), G30 GPIO2_A7/VOP_D7/CIF_D7/I2C7_SDA (io), G31 GPIO2_A0/VOP_D0/CIF_D0/I2C2_SDA (io), H24 GPIO2_B2/SPI2_TXD/CIF_CLKIN/I2C6_SCL (io), H25 GPIO2_A1/VOP_D1/CIF_D1/I2C2_SCL (io), H27 GPIO2_A6/VOP_D6/CIF_D6 (io), H28 GPIO2_B0/VOP_CLK/CIF_VSYNC/I2C7_SCL (io), H29 GPIO2_A4/VOP_D4/CIF_D4 (io), H30 GPIO2_A2/VOP_D2/CIF_D2 (io), H31 GPIO2_B3/SPI2_CLK/VOP_DEN/CIF_CLKOUTA (io)
part Z pins: AC24 ADC_AVDD (power), AG25 ADC_IN2 (in), AG26 ADC_IN0 (in), AG28 ADC_IN3 (in), AH26 ADC_IN1 (in), AH27 ADC_IN4 (in), P26 GPIO1_A6/TSADC_INT (io)
part 27 pins: K19 BIGCPU_VDD_12 (power), K21 BIGCPU_VDD_13 (power), L18 BIGCPU_VDD_8 (power), L19 BIGCPU_VDD_1 (power), L21 BIGCPU_VDD_2 (power), L23 BIGCPU_VDD_11 (power), M18 BIGCPU_VDD_3 (power), M19 BIGCPU_VDD_4 (power), M20 BIGCPU_VDD_5 (power), M21 BIGCPU_VDD_6 (power), M22 BIGCPU_VDD_7 (power), N18 BIGCPU_VDD_COM (power), N20 BIGCPU_VDD_10 (power), N22 BIGCPU_VDD_9 (power)
part 28 pins: P20 LITCPU_VDD_1 (power), P22 LITCPU_VDD_4 (power), R19 LITCPU_VDD_2 (power), R20 LITCPU_VDD_3 (power), R22 LITCPU_VDD_7 (power), T20 LITCPU_VDD_6 (power), T22 LITCPU_VDD_5 (power)
part 29 pins: R11 GPU_VDD_8 (power), R12 GPU_VDD_9 (power), R13 GPU_VDD_13 (power), T11 GPU_VDD_10 (power), T12 GPU_VDD_11 (power), T13 GPU_VDD_12 (power), T14 GPU_VDD_14 (power), T15 GPU_VDD_COM (power), U13 GPU_VDD_7 (power), V11 GPU_VDD_15 (power), V12 GPU_VDD_16 (power), V13 GPU_VDD_6 (power), V14 GPU_VDD_5 (power), V15 GPU_VDD_4 (power), V16 GPU_VDD_17 (power), W10 GPU_VDD_20 (power), W11 GPU_VDD_1 (power), W12 GPU_VDD_2 (power), W14 GPU_VDD_3 (power), W15 GPU_VDD_19 (power), W16 GPU_VDD_18 (power)
part 30 pins: L17 LOGIC_VDD_10 (power), M17 LOGIC_VDD_9 (power), T17 LOGIC_VDD_11 (power), U17 LOGIC_VDD_8 (power), U18 LOGIC_VDD_7 (power), U20 LOGIC_VDD_12 (power), V18 LOGIC_VDD_5 (power), V19 LOGIC_VDD_4 (power), V20 LOGIC_VDD_3 (power), V21 LOGIC_VDD_2 (power), V22 LOGIC_VDD_1 (power), W20 LOGIC_VDD_6 (power)
part 31 pins: M11 CENTERLOGIC_VDD_1 (power), M12 CENTERLOGIC_VDD_2 (power), M13 CENTERLOGIC_VDD_3 (power), M14 CENTERLOGIC_VDD_4 (power), M15 CENTERLOGIC_VDD_5 (power), N11 CENTERLOGIC_VDD_6 (power), N12 CENTERLOGIC_VDD_7 (power), P13 CENTERLOGIC_VDD_8 (power), P14 CENTERLOGIC_VDD_9 (power), P15 CENTERLOGIC_VDD_10 (power)
part 32 pins: AA8 APIO5_VDDPST (power), AB8 APIO3_VDD_1V8 (power), AC8 APIO4_VDDPST (power), AC9 APIO4_VDD (power), J22 APIO1_VDDPST (power), J23 APIO1_VDD (power), J24 APIO2_VDDPST (power), K23 APIO2_VDD (power), N23 PMUIO2_VDDPST (power), P18 PLL_AVDD_1V8 (power), P23 PMUIO2_VDD (power), R17 PLL_AVDD_0V9 (power), R24 PMUIO1_VDD_1V8 (power), T24 PMU_VDD_0V9 (power), U25 PMU_VDD_1V8 (power), Y8 APIO5_VDD (power)
part 33 pins: A1 VSS_1 (power), A27 VSS_2 (power), A31 VSS_3 (power), AA3 VSS_4 (power), AA5 VSS_5 (power), AA9 VSS_6 (power), AB9 VSS_9 (power), AC3 VSS_16 (power), AC20 VSS_13 (power), AC22 VSS_12 (power), AD3 VSS_17 (power), AD5 VSS_18 (power), AD10 VSS_19 (power), AD22 VSS_11 (power), AE23 VSS_14 (power), AF9 VSS_20 (power), AF18 VSS_7 (power), AF20 VSS_10 (power), AG2 VSS_21 (power), AJ5 VSS_22 (power), AL1 VSS_23 (power), B5 VSS_24 (power), C8 VSS_25 (power), C9 VSS_26 (power), C11 VSS_27 (power), C12 VSS_28 (power), C14 VSS_29 (power), C15 VSS_30 (power), C17 VSS_31 (power), C18 VSS_32 (power), C20 VSS_33 (power), C21 VSS_34 (power), C23 VSS_35 (power), C24 VSS_36 (power), C26 VSS_37 (power), D5 VSS_38 (power), E2 VSS_39 (power), E4 VSS_40 (power), E7 VSS_41 (power), E12 VSS_42 (power), E15 VSS_43 (power), E18 VSS_44 (power), E21 VSS_45 (power), E24 VSS_46 (power), E31 VSS_47 (power), F8 VSS_48 (power), F15 VSS_49 (power), F18 VSS_50 (power), F20 VSS_51 (power), F21 VSS_52 (power), G5 VSS_53 (power), G9 VSS_54 (power), G18 VSS_55 (power), G27 VSS_56 (power), H3 VSS_57 (power), H9 VSS_58 (power), H10 VSS_59 (power), H11 VSS_60 (power), Y3 VSS_8 (power), Y10 VSS_15 (power)
part 34 pins: H12 VSS_61 (power), H13 VSS_62 (power), H15 VSS_63 (power), H16 VSS_64 (power), H17 VSS_65 (power), H18 VSS_66 (power), H26 VSS_67 (power), J3 VSS_68 (power), J6 VSS_69 (power), J7 VSS_70 (power), J8 VSS_71 (power), J9 VSS_72 (power), J10 VSS_73 (power), K8 VSS_74 (power), K9 VSS_75 (power), K10 VSS_76 (power), K12 VSS_77 (power), K14 VSS_78 (power), K16 VSS_79 (power), K18 VSS_80 (power), K20 VSS_82 (power), K22 VSS_84 (power), L3 VSS_85 (power), L6 VSS_86 (power), L8 VSS_87 (power), L11 VSS_88 (power), L12 VSS_89 (power), L13 VSS_90 (power), L14 VSS_91 (power), L15 VSS_92 (power), L16 VSS_93 (power), L20 VSS_96 (power), L22 VSS_97 (power), L27 VSS_99 (power), M3 VSS_100 (power), M8 VSS_101 (power), M10 VSS_102 (power), M16 VSS_103 (power), M23 VSS_104 (power), N8 VSS_105 (power), N13 VSS_108 (power), N14 VSS_109 (power), N15 VSS_110 (power), N16 VSS_111 (power), N17 VSS_94 (power), N19 VSS_83 (power), N21 VSS_98 (power), P3 VSS_112 (power), P6 VSS_113 (power), P7 VSS_114 (power), P8 VSS_115 (power), P10 VSS_116 (power), P11 VSS_106 (power), P12 VSS_107 (power), P16 VSS_117 (power), P19 VSS_119 (power), R21 VSS_120 (power), W21 VSS_81 (power), Y16 VSS_118 (power), Y17 VSS_95 (power)
part 35 pins: AA10 VSS_179 (power), AA13 VSS_177 (power), AB19 VSS_140 (power), AC18 VSS_145 (power), AC21 VSS_132 (power), AD21 VSS_163 (power), AJ20 VSS_180 (power), AJ21 VSS_172 (power), AJ23 VSS_173 (power), AJ24 VSS_174 (power), AJ26 VSS_175 (power), AJ27 VSS_176 (power), AJ28 VSS_171 (power), AL31 VSS_178 (power), P21 VSS_121 (power), R3 VSS_123 (power), R5 VSS_124 (power), R6 VSS_125 (power), R14 VSS_129 (power), R15 VSS_130 (power), R16 VSS_131 (power), R18 VSS_165 (power), R23 VSS_133 (power), T8 VSS_134 (power), T10 VSS_135 (power), T16 VSS_138 (power), T18 VSS_168 (power), T19 VSS_122 (power), T21 VSS_139 (power), U3 VSS_141 (power), U8 VSS_142 (power), U11 VSS_126 (power), U12 VSS_127 (power), U14 VSS_137 (power), U15 VSS_143 (power), U16 VSS_144 (power), U19 VSS_146 (power), U21 VSS_147 (power), U22 VSS_149 (power), U29 VSS_150 (power), V3 VSS_151 (power), V5 VSS_152 (power), V8 VSS_153 (power), V10 VSS_154 (power), V17 VSS_148 (power), W8 VSS_161 (power), W9 VSS_162 (power), W13 VSS_128 (power), W17 VSS_159 (power), W18 VSS_169 (power), W19 VSS_167 (power), W22 VSS_158 (power), W30 VSS_160 (power), Y9 VSS_166 (power), Y11 VSS_155 (power), Y12 VSS_136 (power), Y13 VSS_164 (power), Y14 VSS_156 (power), Y15 VSS_157 (power), Y20 VSS_170 (power)
part 36 pins: AA11 AVSS_13 (power), AA12 AVSS_17 (power), AA14 AVSS_26 (power), AA15 AVSS_53 (power), AA23 AVSS_4 (power), AA26 AVSS_6 (power), AA29 AVSS_7 (power), AB10 AVSS_12 (power), AB11 AVSS_8 (power), AB13 AVSS_9 (power), AB15 AVSS_42 (power), AB16 AVSS_41 (power), AB17 AVSS_52 (power), AB23 AVSS_5 (power), AC11 AVSS_44 (power), AC13 AVSS_45 (power), AC15 AVSS_10 (power), AC16 AVSS_18 (power), AC17 AVSS_43 (power), AC23 AVSS_19 (power), AC25 AVSS_51 (power), AC26 AVSS_14 (power), AC29 AVSS_15 (power), AD13 AVSS_11 (power), AD17 AVSS_16 (power), AD26 AVSS_40 (power), AD29 AVSS_20 (power), AE11 AVSS_21 (power), AE12 AVSS_22 (power), AE14 AVSS_23 (power), AE17 AVSS_24 (power), AE27 AVSS_25 (power), AF17 AVSS_27 (power), AF23 AVSS_2 (power), AF24 AVSS_3 (power), AF29 AVSS_28 (power), AG29 AVSS_29 (power), AH29 AVSS_30 (power), AJ6 AVSS_31 (power), AJ8 AVSS_32 (power), AJ9 AVSS_33 (power), AJ11 AVSS_34 (power), AJ12 AVSS_35 (power), AJ14 AVSS_36 (power), AJ15 AVSS_37 (power), AJ17 AVSS_38 (power), AJ18 AVSS_39 (power), AJ29 AVSS_47 (power), B31 EDP_AVSS_1 (power), C28 EDP_AVSS_2 (power), C29 EDP_AVSS_3 (power), D29 EDP_AVSS_4 (power), H19 EDP_AVSS_5 (power), J21 EDP_AVSS_6 (power), P17 PLL_AVSS (power), U23 AVSS_49 (power), V23 AVSS_50 (power), W23 AVSS_46 (power), Y23 AVSS_1 (power), Y29 AVSS_48 (power)
part A text: PCIe differential data I/O signals
part B text: DDRC0
part C text: DDRC0 Power
part D text: DDRC1
part E text: DDRC1 Power
part F text: MISC
part G text: SDIO
part H text: eMMC
part I text: USB 2.0
part J text: SDMMC
part K text: USB 3.0 - 0
part L text: USB 3.0 - 1
part M text: MIPI DSI
part N text: MIPI CSI
part O text: MIPI CSI/DSI
part P text: eDP
part Q text: HDMI
part R text: GMAC
part S text: ISP
part T text: PWM
part U text: UART
part V text: I2C
part W text: SPI & I2C
part X text: I2S
part Y text: Camera IF
part Z text: SAR-ADC
part 27 text: Internal BIG CPU A72 Power
part 28 text: Internal LITTLE CPU A53 Power
part 29 text: Internal GPU Power
part 30 text: Internal Logic Power
part 31 text: Internal Center Logic Power
part 32 text: Power
part 33 text: Internal Logic Ground and Digital IO Groung - 0
part 34 text: Internal Logic Ground and Digital IO Groung - 1
part 35 text: Internal Logic Ground and Digital IO Groung - 2
part 36 text: Analog Groung

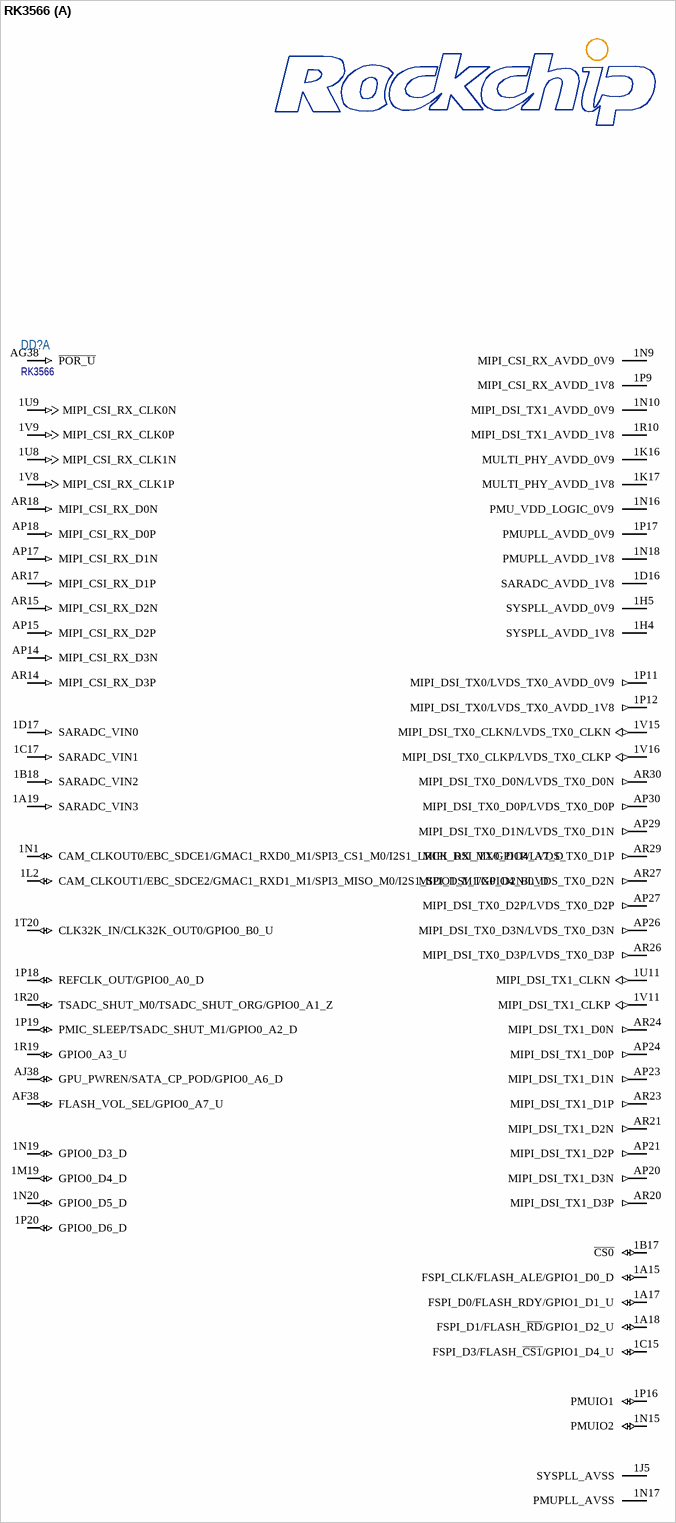
[diagram p8: symbol RK3566]

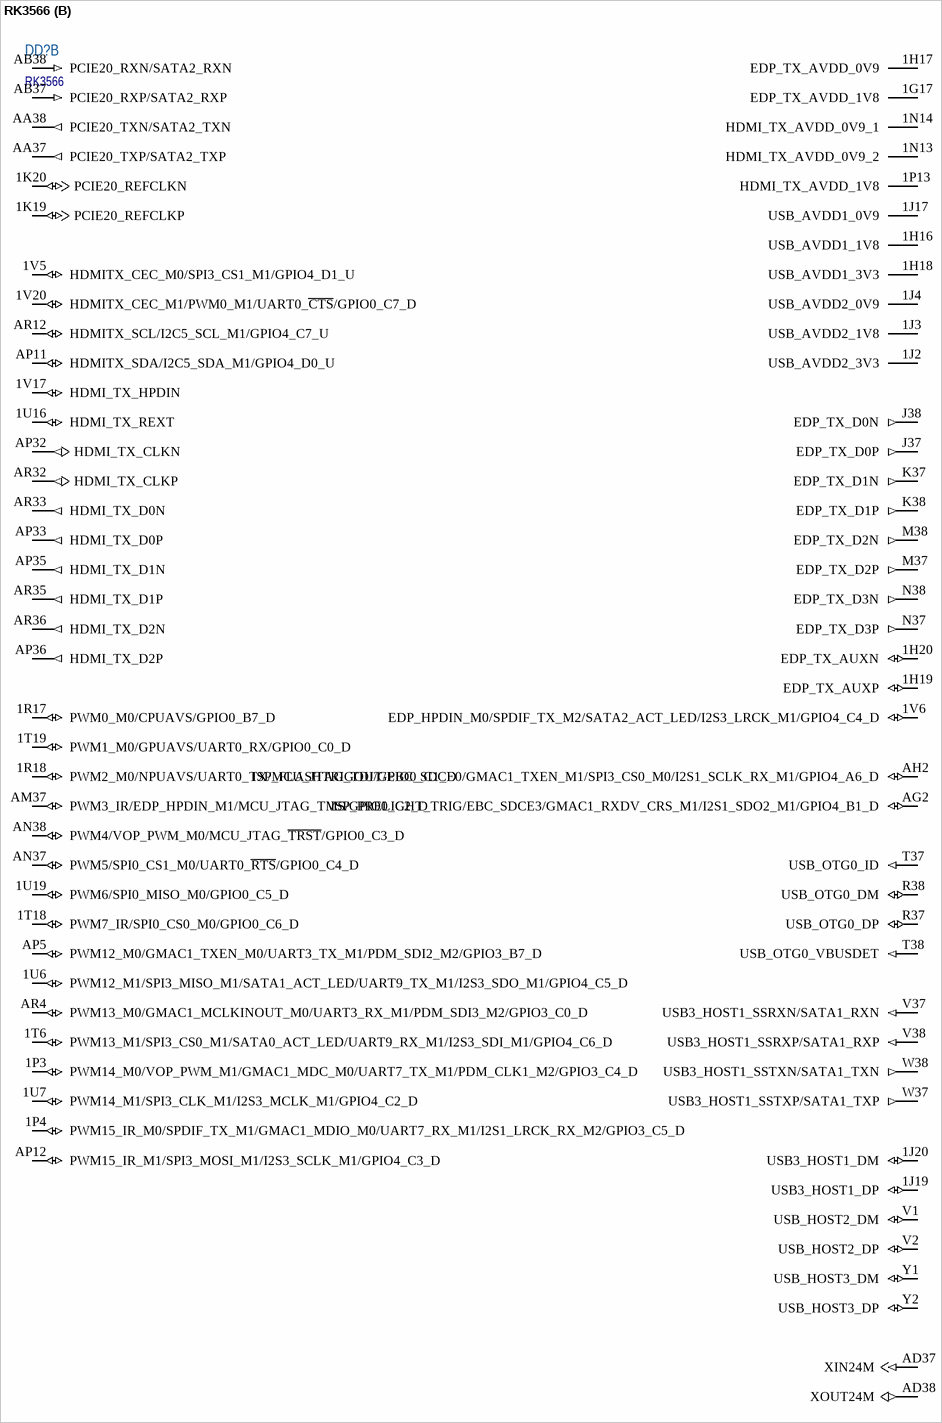
[diagram p9: symbol RK3566]

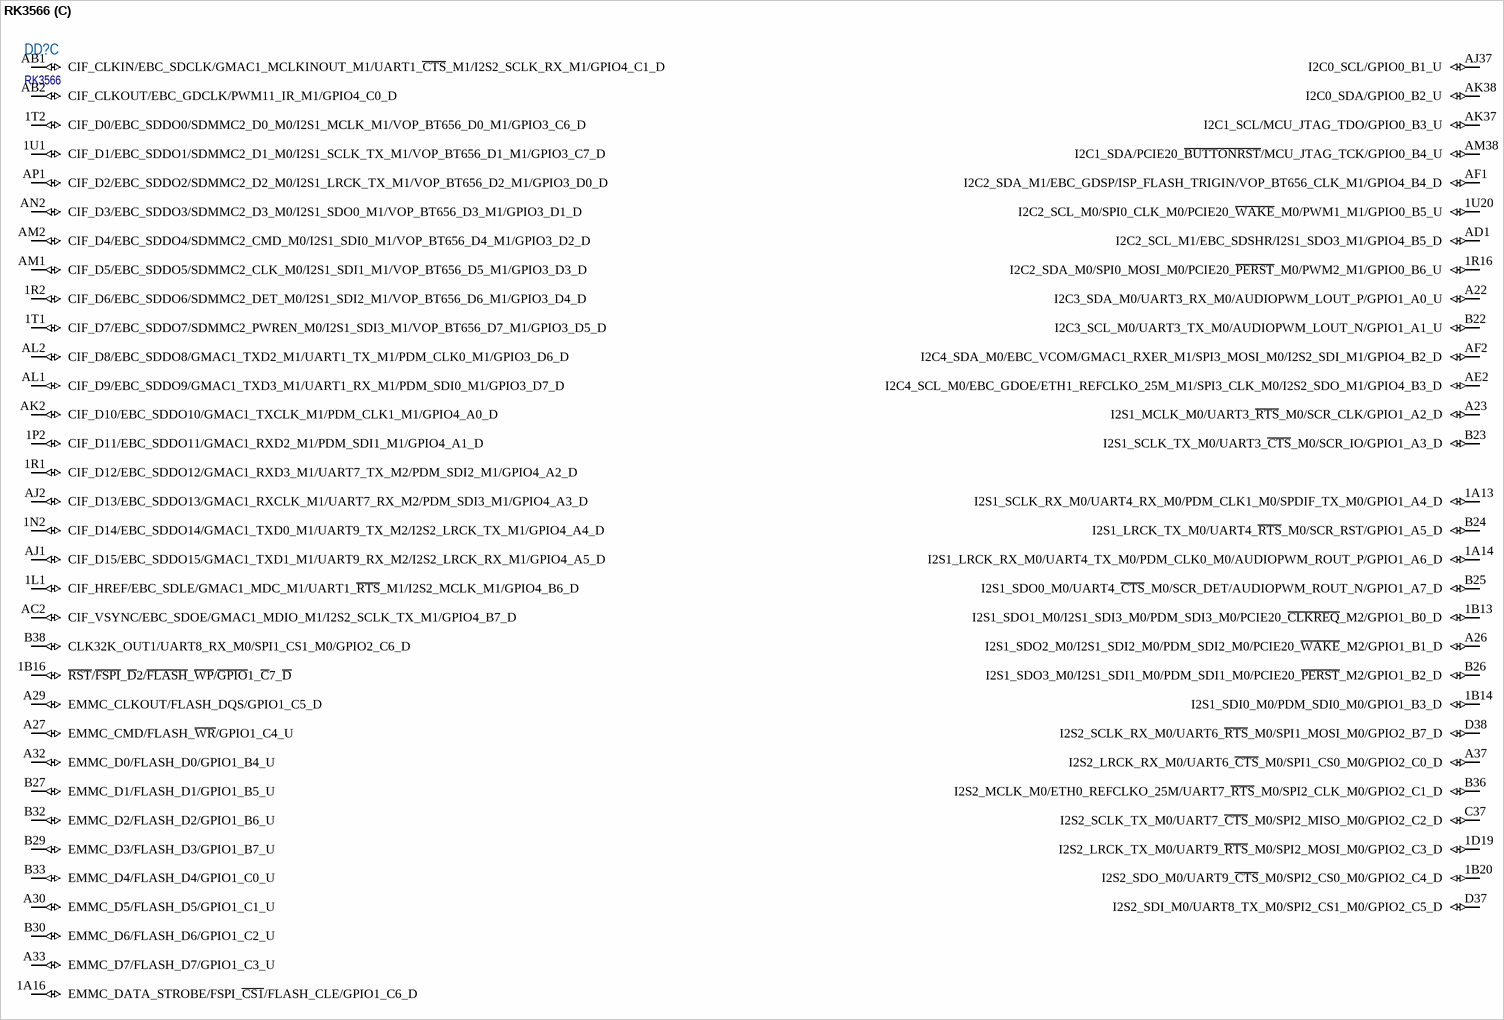
[diagram p10: symbol RK3566]

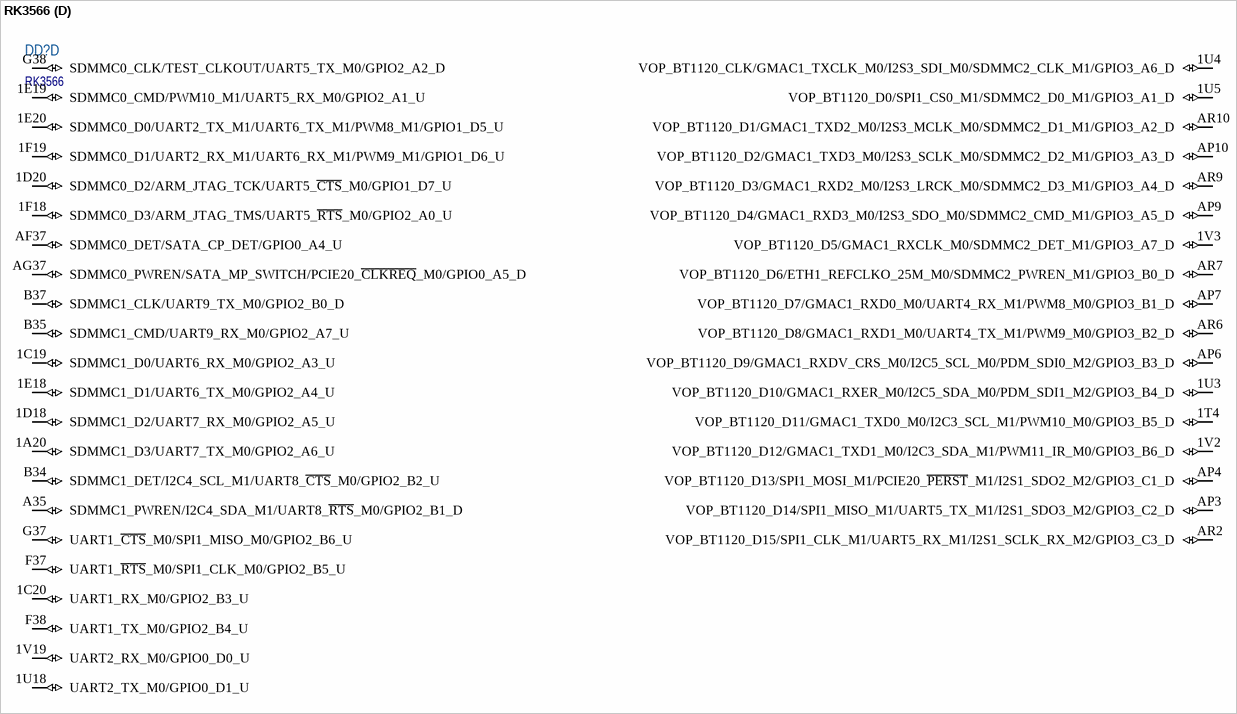
[diagram p11: symbol RK3566]

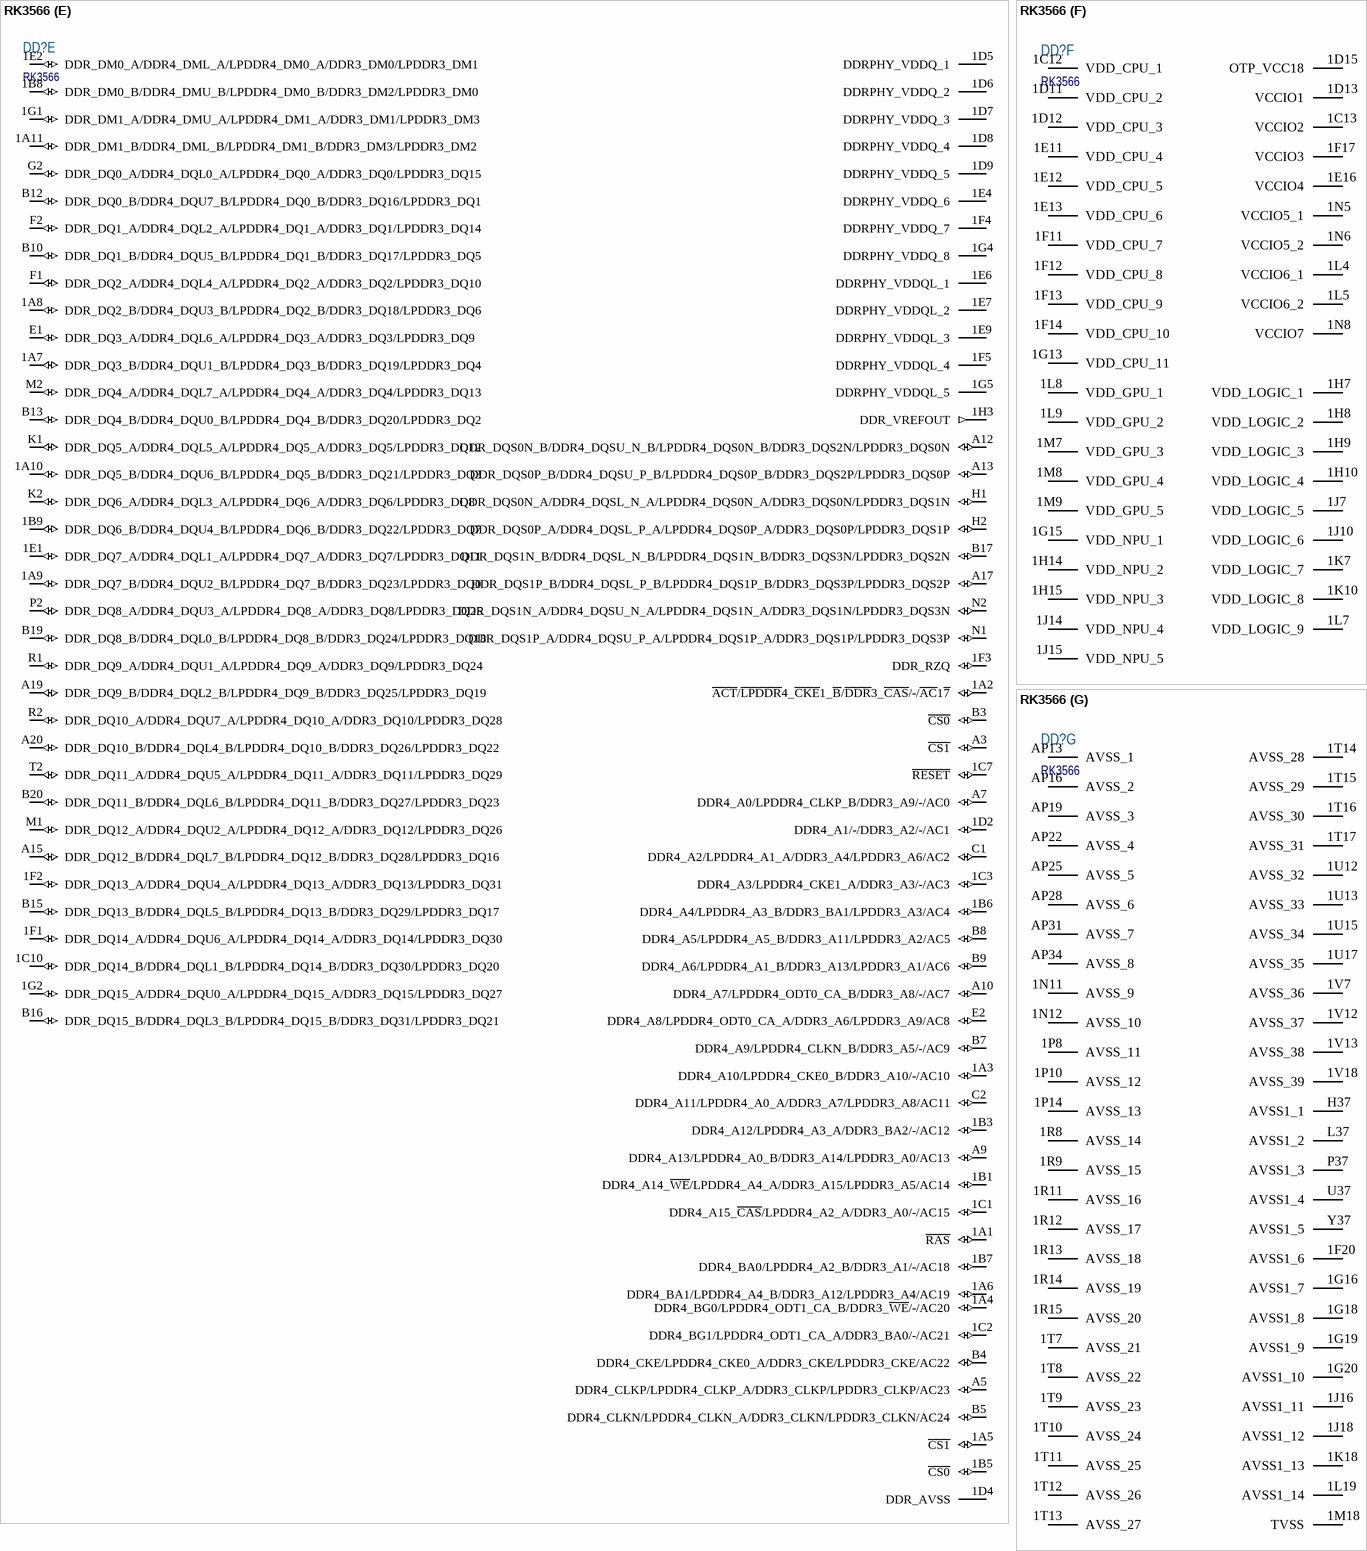
[diagram p12: symbol RK3566]

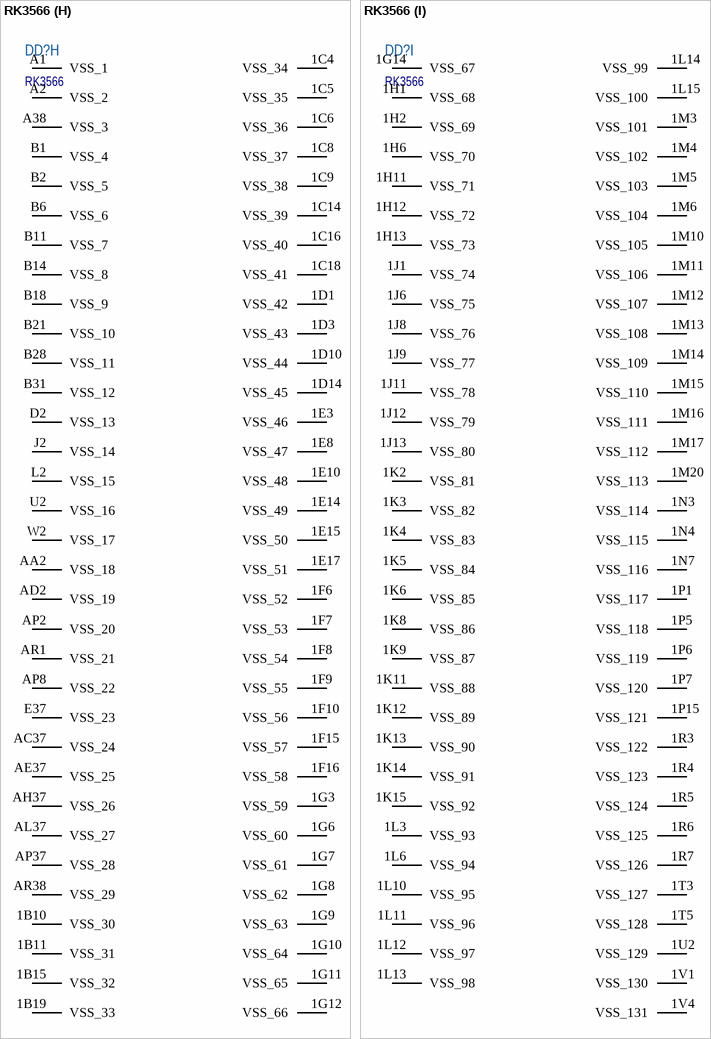
[diagram p13: symbol RK3566]

## RK3566
designator DD?
High-performance and low-power quad-core application processor; Manufacturer: Fuzhou Rockchip Electronics Co; Part Number: RK3566
footprint FCCSP565L_RK3566
part A pins: 1A15 FSPI_CLK/FLASH_ALE/GPIO1_D0_D (io), 1A17 FSPI_D0/FLASH_RDY/GPIO1_D1_U (io), 1A18 FSPI_D1/FLASH_~{RD}/GPIO1_D2_U (io), 1A19 SARADC_VIN3 (in), 1B17 ~{CS0} (io), 1B18 SARADC_VIN2 (in), 1C15 FSPI_D3/FLASH_~{CS1}/GPIO1_D4_U (io), 1C17 SARADC_VIN1 (in), 1D16 SARADC_AVDD_1V8 (power), 1D17 SARADC_VIN0 (in), 1H4 SYSPLL_AVDD_1V8 (power), 1H5 SYSPLL_AVDD_0V9 (power), 1J5 SYSPLL_AVSS (power), 1K16 MULTI_PHY_AVDD_0V9 (power), 1K17 MULTI_PHY_AVDD_1V8 (power), 1L2 CAM_CLKOUT1/EBC_SDCE2/GMAC1_RXD1_M1/SPI3_MISO_M0/I2S1_SDO1_M1/GPIO4_B0_D (io), 1M19 GPIO0_D4_D (io), 1N1 CAM_CLKOUT0/EBC_SDCE1/GMAC1_RXD0_M1/SPI3_CS1_M0/I2S1_LRCK_RX_M1/GPIO4_A7_D (io), 1N9 MIPI_CSI_RX_AVDD_0V9 (power), 1N10 MIPI_DSI_TX1_AVDD_0V9 (power), 1N15 PMUIO2 (io), 1N16 PMU_VDD_LOGIC_0V9 (power), 1N17 PMUPLL_AVSS (power), 1N18 PMUPLL_AVDD_1V8 (power), 1N19 GPIO0_D3_D (io), 1N20 GPIO0_D5_D (io), 1P9 MIPI_CSI_RX_AVDD_1V8 (power), 1P11 MIPI_DSI_TX0/LVDS_TX0_AVDD_0V9 (out), 1P12 MIPI_DSI_TX0/LVDS_TX0_AVDD_1V8 (out), 1P16 PMUIO1 (io), 1P17 PMUPLL_AVDD_0V9 (power), 1P18 REFCLK_OUT/GPIO0_A0_D (io), 1P19 PMIC_SLEEP/TSADC_SHUT_M1/GPIO0_A2_D (io), 1P20 GPIO0_D6_D (io), 1R10 MIPI_DSI_TX1_AVDD_1V8 (power), 1R19 GPIO0_A3_U (io), 1R20 TSADC_SHUT_M0/TSADC_SHUT_ORG/GPIO0_A1_Z (io), 1T20 CLK32K_IN/CLK32K_OUT0/GPIO0_B0_U (io), 1U8 MIPI_CSI_RX_CLK1N (in), 1U9 MIPI_CSI_RX_CLK0N (in), 1U11 MIPI_DSI_TX1_CLKN (out), 1V8 MIPI_CSI_RX_CLK1P (in), 1V9 MIPI_CSI_RX_CLK0P (in), 1V11 MIPI_DSI_TX1_CLKP (out), 1V15 MIPI_DSI_TX0_CLKN/LVDS_TX0_CLKN (out), 1V16 MIPI_DSI_TX0_CLKP/LVDS_TX0_CLKP (out), AF38 FLASH_VOL_SEL/GPIO0_A7_U (io), AG38 ~{POR_U} (in), AJ38 GPU_PWREN/SATA_CP_POD/GPIO0_A6_D (io), AP14 MIPI_CSI_RX_D3N (in), AP15 MIPI_CSI_RX_D2P (in), AP17 MIPI_CSI_RX_D1N (in), AP18 MIPI_CSI_RX_D0P (in), AP20 MIPI_DSI_TX1_D3N (out), AP21 MIPI_DSI_TX1_D2P (out), AP23 MIPI_DSI_TX1_D1N (out), AP24 MIPI_DSI_TX1_D0P (out), AP26 MIPI_DSI_TX0_D3N/LVDS_TX0_D3N (out), AP27 MIPI_DSI_TX0_D2P/LVDS_TX0_D2P (out), AP29 MIPI_DSI_TX0_D1N/LVDS_TX0_D1N (out), AP30 MIPI_DSI_TX0_D0P/LVDS_TX0_D0P (out), AR14 MIPI_CSI_RX_D3P (in), AR15 MIPI_CSI_RX_D2N (in), AR17 MIPI_CSI_RX_D1P (in), AR18 MIPI_CSI_RX_D0N (in), AR20 MIPI_DSI_TX1_D3P (out), AR21 MIPI_DSI_TX1_D2N (out), AR23 MIPI_DSI_TX1_D1P (out), AR24 MIPI_DSI_TX1_D0N (out), AR26 MIPI_DSI_TX0_D3P/LVDS_TX0_D3P (out), AR27 MIPI_DSI_TX0_D2N/LVDS_TX0_D2N (out), AR29 MIPI_DSI_TX0_D1P/LVDS_TX0_D1P (out), AR30 MIPI_DSI_TX0_D0N/LVDS_TX0_D0N (out)
part B pins: 1G17 EDP_TX_AVDD_1V8 (power), 1H16 USB_AVDD1_1V8 (power), 1H17 EDP_TX_AVDD_0V9 (power), 1H18 USB_AVDD1_3V3 (power), 1H19 EDP_TX_AUXP (io), 1H20 EDP_TX_AUXN (io), 1J2 USB_AVDD2_3V3 (power), 1J3 USB_AVDD2_1V8 (power), 1J4 USB_AVDD2_0V9 (power), 1J17 USB_AVDD1_0V9 (power), 1J19 USB3_HOST1_DP (io), 1J20 USB3_HOST1_DM (io), 1K19 PCIE20_REFCLKP (io), 1K20 PCIE20_REFCLKN (io), 1N13 HDMI_TX_AVDD_0V9_2 (power), 1N14 HDMI_TX_AVDD_0V9_1 (power), 1P3 PWM14_M0/VOP_PWM_M1/GMAC1_MDC_M0/UART7_TX_M1/PDM_CLK1_M2/GPIO3_C4_D (io), 1P4 PWM15_IR_M0/SPDIF_TX_M1/GMAC1_MDIO_M0/UART7_RX_M1/I2S1_LRCK_RX_M2/GPIO3_C5_D (io), 1P13 HDMI_TX_AVDD_1V8 (power), 1R17 PWM0_M0/CPUAVS/GPIO0_B7_D (io), 1R18 PWM2_M0/NPUAVS/UART0_TX/MCU_JTAG_TDI/GPIO0_C1_D (io), 1T6 PWM13_M1/SPI3_CS0_M1/SATA0_ACT_LED/UART9_RX_M1/I2S3_SDI_M1/GPIO4_C6_D (io), 1T18 PWM7_IR/SPI0_CS0_M0/GPIO0_C6_D (io), 1T19 PWM1_M0/GPUAVS/UART0_RX/GPIO0_C0_D (io), 1U6 PWM12_M1/SPI3_MISO_M1/SATA1_ACT_LED/UART9_TX_M1/I2S3_SDO_M1/GPIO4_C5_D (io), 1U7 PWM14_M1/SPI3_CLK_M1/I2S3_MCLK_M1/GPIO4_C2_D (io), 1U16 HDMI_TX_REXT (io), 1U19 PWM6/SPI0_MISO_M0/GPIO0_C5_D (io), 1V5 HDMITX_CEC_M0/SPI3_CS1_M1/GPIO4_D1_U (io), 1V6 EDP_HPDIN_M0/SPDIF_TX_M2/SATA2_ACT_LED/I2S3_LRCK_M1/GPIO4_C4_D (io), 1V17 HDMI_TX_HPDIN (io), 1V20 HDMITX_CEC_M1/PWM0_M1/UART0_~{CTS}/GPIO0_C7_D (io), AA37 PCIE20_TXP/SATA2_TXP (out), AA38 PCIE20_TXN/SATA2_TXN (out), AB37 PCIE20_RXP/SATA2_RXP (in), AB38 PCIE20_RXN/SATA2_RXN (in), AD37 XIN24M (in), AD38 XOUT24M (out), AG2 ISP_PRELIGHT_TRIG/EBC_SDCE3/GMAC1_RXDV_CRS_M1/I2S1_SDO2_M1/GPIO4_B1_D (io), AH2 ISP_FLASHTRIGOUT/EBC_SDCE0/GMAC1_TXEN_M1/SPI3_CS0_M0/I2S1_SCLK_RX_M1/GPIO4_A6_D (io), AM37 PWM3_IR/EDP_HPDIN_M1/MCU_JTAG_TMS/GPIO0_C2_D (io), AN37 PWM5/SPI0_CS1_M0/UART0_~{RTS}/GPIO0_C4_D (io), AN38 PWM4/VOP_PWM_M0/MCU_JTAG_~{TRST}/GPIO0_C3_D (io), AP5 PWM12_M0/GMAC1_TXEN_M0/UART3_TX_M1/PDM_SDI2_M2/GPIO3_B7_D (io), AP11 HDMITX_SDA/I2C5_SDA_M1/GPIO4_D0_U (io), AP12 PWM15_IR_M1/SPI3_MOSI_M1/I2S3_SCLK_M1/GPIO4_C3_D (io), AP32 HDMI_TX_CLKN (out), AP33 HDMI_TX_D0P (out), AP35 HDMI_TX_D1N (out), AP36 HDMI_TX_D2P (out), AR4 PWM13_M0/GMAC1_MCLKINOUT_M0/UART3_RX_M1/PDM_SDI3_M2/GPIO3_C0_D (io), AR12 HDMITX_SCL/I2C5_SCL_M1/GPIO4_C7_U (io), AR32 HDMI_TX_CLKP (out), AR33 HDMI_TX_D0N (out), AR35 HDMI_TX_D1P (out), AR36 HDMI_TX_D2N (out), J37 EDP_TX_D0P (out), J38 EDP_TX_D0N (out), K37 EDP_TX_D1N (out), K38 EDP_TX_D1P (out), M37 EDP_TX_D2P (out), M38 EDP_TX_D2N (out), N37 EDP_TX_D3P (out), N38 EDP_TX_D3N (out), R37 USB_OTG0_DP (io), R38 USB_OTG0_DM (io), T37 USB_OTG0_ID (in), T38 USB_OTG0_VBUSDET (in), V1 USB_HOST2_DM (io), V2 USB_HOST2_DP (io), V37 USB3_HOST1_SSRXN/SATA1_RXN (in), V38 USB3_HOST1_SSRXP/SATA1_RXP (in), W37 USB3_HOST1_SSTXP/SATA1_TXP (out), W38 USB3_HOST1_SSTXN/SATA1_TXN (out), Y1 USB_HOST3_DM (io), Y2 USB_HOST3_DP (io)
part C pins: 1A13 I2S1_SCLK_RX_M0/UART4_RX_M0/PDM_CLK1_M0/SPDIF_TX_M0/GPIO1_A4_D (io), 1A14 I2S1_LRCK_RX_M0/UART4_TX_M0/PDM_CLK0_M0/AUDIOPWM_ROUT_P/GPIO1_A6_D (io), 1A16 EMMC_DATA_STROBE/FSPI_~{CS1}/FLASH_CLE/GPIO1_C6_D (io), 1B13 I2S1_SDO1_M0/I2S1_SDI3_M0/PDM_SDI3_M0/PCIE20_~{CLKREQ}_M2/GPIO1_B0_D (io), 1B14 I2S1_SDI0_M0/PDM_SDI0_M0/GPIO1_B3_D (io), 1B16 ~{RST}/~{FSPI}_~{D}2/~{FLASH}_~{WP}/~{GPIO}1_~{C}7_~{D} (io), 1B20 I2S2_SDO_M0/UART9_~{CTS}_M0/SPI2_CS0_M0/GPIO2_C4_D (io), 1D19 I2S2_LRCK_TX_M0/UART9_~{RTS}_M0/SPI2_MOSI_M0/GPIO2_C3_D (io), 1L1 CIF_HREF/EBC_SDLE/GMAC1_MDC_M1/UART1_~{RTS}_M1/I2S2_MCLK_M1/GPIO4_B6_D (io), 1N2 CIF_D14/EBC_SDDO14/GMAC1_TXD0_M1/UART9_TX_M2/I2S2_LRCK_TX_M1/GPIO4_A4_D (io), 1P2 CIF_D11/EBC_SDDO11/GMAC1_RXD2_M1/PDM_SDI1_M1/GPIO4_A1_D (io), 1R1 CIF_D12/EBC_SDDO12/GMAC1_RXD3_M1/UART7_TX_M2/PDM_SDI2_M1/GPIO4_A2_D (io), 1R2 CIF_D6/EBC_SDDO6/SDMMC2_DET_M0/I2S1_SDI2_M1/VOP_BT656_D6_M1/GPIO3_D4_D (io), 1R16 I2C2_SDA_M0/SPI0_MOSI_M0/PCIE20_~{PERST}_M0/PWM2_M1/GPIO0_B6_U (io), 1T1 CIF_D7/EBC_SDDO7/SDMMC2_PWREN_M0/I2S1_SDI3_M1/VOP_BT656_D7_M1/GPIO3_D5_D (io), 1T2 CIF_D0/EBC_SDDO0/SDMMC2_D0_M0/I2S1_MCLK_M1/VOP_BT656_D0_M1/GPIO3_C6_D (io), 1U1 CIF_D1/EBC_SDDO1/SDMMC2_D1_M0/I2S1_SCLK_TX_M1/VOP_BT656_D1_M1/GPIO3_C7_D (io), 1U20 I2C2_SCL_M0/SPI0_CLK_M0/PCIE20_~{WAKE}_M0/PWM1_M1/GPIO0_B5_U (io), A22 I2C3_SDA_M0/UART3_RX_M0/AUDIOPWM_LOUT_P/GPIO1_A0_U (io), A23 I2S1_MCLK_M0/UART3_~{RTS}_M0/SCR_CLK/GPIO1_A2_D (io), A26 I2S1_SDO2_M0/I2S1_SDI2_M0/PDM_SDI2_M0/PCIE20_~{WAKE}_M2/GPIO1_B1_D (io), A27 EMMC_CMD/FLASH_~{WR}/GPIO1_C4_U (io), A29 EMMC_CLKOUT/FLASH_DQS/GPIO1_C5_D (io), A30 EMMC_D5/FLASH_D5/GPIO1_C1_U (io), A32 EMMC_D0/FLASH_D0/GPIO1_B4_U (io), A33 EMMC_D7/FLASH_D7/GPIO1_C3_U (io), A37 I2S2_LRCK_RX_M0/UART6_~{CTS}_M0/SPI1_CS0_M0/GPIO2_C0_D (io), AB1 CIF_CLKIN/EBC_SDCLK/GMAC1_MCLKINOUT_M1/UART1_~{CTS}_M1/I2S2_SCLK_RX_M1/GPIO4_C1_D (io), AB2 CIF_CLKOUT/EBC_GDCLK/PWM11_IR_M1/GPIO4_C0_D (io), AC2 CIF_VSYNC/EBC_SDOE/GMAC1_MDIO_M1/I2S2_SCLK_TX_M1/GPIO4_B7_D (io), AD1 I2C2_SCL_M1/EBC_SDSHR/I2S1_SDO3_M1/GPIO4_B5_D (io), AE2 I2C4_SCL_M0/EBC_GDOE/ETH1_REFCLKO_25M_M1/SPI3_CLK_M0/I2S2_SDO_M1/GPIO4_B3_D (io), AF1 I2C2_SDA_M1/EBC_GDSP/ISP_FLASH_TRIGIN/VOP_BT656_CLK_M1/GPIO4_B4_D (io), AF2 I2C4_SDA_M0/EBC_VCOM/GMAC1_RXER_M1/SPI3_MOSI_M0/I2S2_SDI_M1/GPIO4_B2_D (io), AJ1 CIF_D15/EBC_SDDO15/GMAC1_TXD1_M1/UART9_RX_M2/I2S2_LRCK_RX_M1/GPIO4_A5_D (io), AJ2 CIF_D13/EBC_SDDO13/GMAC1_RXCLK_M1/UART7_RX_M2/PDM_SDI3_M1/GPIO4_A3_D (io), AJ37 I2C0_SCL/GPIO0_B1_U (io), AK2 CIF_D10/EBC_SDDO10/GMAC1_TXCLK_M1/PDM_CLK1_M1/GPIO4_A0_D (io), AK37 I2C1_SCL/MCU_JTAG_TDO/GPIO0_B3_U (io), AK38 I2C0_SDA/GPIO0_B2_U (io), AL1 CIF_D9/EBC_SDDO9/GMAC1_TXD3_M1/UART1_RX_M1/PDM_SDI0_M1/GPIO3_D7_D (io), AL2 CIF_D8/EBC_SDDO8/GMAC1_TXD2_M1/UART1_TX_M1/PDM_CLK0_M1/GPIO3_D6_D (io), AM1 CIF_D5/EBC_SDDO5/SDMMC2_CLK_M0/I2S1_SDI1_M1/VOP_BT656_D5_M1/GPIO3_D3_D (io), AM2 CIF_D4/EBC_SDDO4/SDMMC2_CMD_M0/I2S1_SDI0_M1/VOP_BT656_D4_M1/GPIO3_D2_D (io), AM38 I2C1_SDA/PCIE20_~{BUTTONRST}/MCU_JTAG_TCK/GPIO0_B4_U (io), AN2 CIF_D3/EBC_SDDO3/SDMMC2_D3_M0/I2S1_SDO0_M1/VOP_BT656_D3_M1/GPIO3_D1_D (io), AP1 CIF_D2/EBC_SDDO2/SDMMC2_D2_M0/I2S1_LRCK_TX_M1/VOP_BT656_D2_M1/GPIO3_D0_D (io), B22 I2C3_SCL_M0/UART3_TX_M0/AUDIOPWM_LOUT_N/GPIO1_A1_U (io), B23 I2S1_SCLK_TX_M0/UART3_~{CTS}_M0/SCR_IO/GPIO1_A3_D (io), B24 I2S1_LRCK_TX_M0/UART4_~{RTS}_M0/SCR_RST/GPIO1_A5_D (io), B25 I2S1_SDO0_M0/UART4_~{CTS}_M0/SCR_DET/AUDIOPWM_ROUT_N/GPIO1_A7_D (io), B26 I2S1_SDO3_M0/I2S1_SDI1_M0/PDM_SDI1_M0/PCIE20_~{PERST}_M2/GPIO1_B2_D (io), B27 EMMC_D1/FLASH_D1/GPIO1_B5_U (io), B29 EMMC_D3/FLASH_D3/GPIO1_B7_U (io), B30 EMMC_D6/FLASH_D6/GPIO1_C2_U (io), B32 EMMC_D2/FLASH_D2/GPIO1_B6_U (io), B33 EMMC_D4/FLASH_D4/GPIO1_C0_U (io), B36 I2S2_MCLK_M0/ETH0_REFCLKO_25M/UART7_~{RTS}_M0/SPI2_CLK_M0/GPIO2_C1_D (io), B38 CLK32K_OUT1/UART8_RX_M0/SPI1_CS1_M0/GPIO2_C6_D (io), C37 I2S2_SCLK_TX_M0/UART7_~{CTS}_M0/SPI2_MISO_M0/GPIO2_C2_D (io), D37 I2S2_SDI_M0/UART8_TX_M0/SPI2_CS1_M0/GPIO2_C5_D (io), D38 I2S2_SCLK_RX_M0/UART6_~{RTS}_M0/SPI1_MOSI_M0/GPIO2_B7_D (io)
part D pins: 1A20 SDMMC1_D3/UART7_TX_M0/GPIO2_A6_U (io), 1C19 SDMMC1_D0/UART6_RX_M0/GPIO2_A3_U (io), 1C20 UART1_RX_M0/GPIO2_B3_U (io), 1D18 SDMMC1_D2/UART7_RX_M0/GPIO2_A5_U (io), 1D20 SDMMC0_D2/ARM_JTAG_TCK/UART5_~{CTS}_M0/GPIO1_D7_U (io), 1E18 SDMMC1_D1/UART6_TX_M0/GPIO2_A4_U (io), 1E19 SDMMC0_CMD/PWM10_M1/UART5_RX_M0/GPIO2_A1_U (io), 1E20 SDMMC0_D0/UART2_TX_M1/UART6_TX_M1/PWM8_M1/GPIO1_D5_U (io), 1F18 SDMMC0_D3/ARM_JTAG_TMS/UART5_~{RTS}_M0/GPIO2_A0_U (io), 1F19 SDMMC0_D1/UART2_RX_M1/UART6_RX_M1/PWM9_M1/GPIO1_D6_U (io), 1T4 VOP_BT1120_D11/GMAC1_TXD0_M0/I2C3_SCL_M1/PWM10_M0/GPIO3_B5_D (io), 1U3 VOP_BT1120_D10/GMAC1_RXER_M0/I2C5_SDA_M0/PDM_SDI1_M2/GPIO3_B4_D (io), 1U4 VOP_BT1120_CLK/GMAC1_TXCLK_M0/I2S3_SDI_M0/SDMMC2_CLK_M1/GPIO3_A6_D (io), 1U5 VOP_BT1120_D0/SPI1_CS0_M1/SDMMC2_D0_M1/GPIO3_A1_D (io), 1U18 UART2_TX_M0/GPIO0_D1_U (io), 1V2 VOP_BT1120_D12/GMAC1_TXD1_M0/I2C3_SDA_M1/PWM11_IR_M0/GPIO3_B6_D (io), 1V3 VOP_BT1120_D5/GMAC1_RXCLK_M0/SDMMC2_DET_M1/GPIO3_A7_D (io), 1V19 UART2_RX_M0/GPIO0_D0_U (io), A35 SDMMC1_PWREN/I2C4_SDA_M1/UART8_~{RTS}_M0/GPIO2_B1_D (io), AF37 SDMMC0_DET/SATA_CP_DET/GPIO0_A4_U (io), AG37 SDMMC0_PWREN/SATA_MP_SWITCH/PCIE20_~{CLKREQ}_M0/GPIO0_A5_D (io), AP3 VOP_BT1120_D14/SPI1_MISO_M1/UART5_TX_M1/I2S1_SDO3_M2/GPIO3_C2_D (io), AP4 VOP_BT1120_D13/SPI1_MOSI_M1/PCIE20_~{PERST}_M1/I2S1_SDO2_M2/GPIO3_C1_D (io), AP6 VOP_BT1120_D9/GMAC1_RXDV_CRS_M0/I2C5_SCL_M0/PDM_SDI0_M2/GPIO3_B3_D (io), AP7 VOP_BT1120_D7/GMAC1_RXD0_M0/UART4_RX_M1/PWM8_M0/GPIO3_B1_D (io), AP9 VOP_BT1120_D4/GMAC1_RXD3_M0/I2S3_SDO_M0/SDMMC2_CMD_M1/GPIO3_A5_D (io), AP10 VOP_BT1120_D2/GMAC1_TXD3_M0/I2S3_SCLK_M0/SDMMC2_D2_M1/GPIO3_A3_D (io), AR2 VOP_BT1120_D15/SPI1_CLK_M1/UART5_RX_M1/I2S1_SCLK_RX_M2/GPIO3_C3_D (io), AR6 VOP_BT1120_D8/GMAC1_RXD1_M0/UART4_TX_M1/PWM9_M0/GPIO3_B2_D (io), AR7 VOP_BT1120_D6/ETH1_REFCLKO_25M_M0/SDMMC2_PWREN_M1/GPIO3_B0_D (io), AR9 VOP_BT1120_D3/GMAC1_RXD2_M0/I2S3_LRCK_M0/SDMMC2_D3_M1/GPIO3_A4_D (io), AR10 VOP_BT1120_D1/GMAC1_TXD2_M0/I2S3_MCLK_M0/SDMMC2_D1_M1/GPIO3_A2_D (io), B34 SDMMC1_DET/I2C4_SCL_M1/UART8_~{CTS}_M0/GPIO2_B2_U (io), B35 SDMMC1_CMD/UART9_RX_M0/GPIO2_A7_U (io), B37 SDMMC1_CLK/UART9_TX_M0/GPIO2_B0_D (io), F37 UART1_~{RTS}_M0/SPI1_CLK_M0/GPIO2_B5_U (io), F38 UART1_TX_M0/GPIO2_B4_U (io), G37 UART1_~{CTS}_M0/SPI1_MISO_M0/GPIO2_B6_U (io), G38 SDMMC0_CLK/TEST_CLKOUT/UART5_TX_M0/GPIO2_A2_D (io)
part E pins: 1A1 ~{RAS} (io), 1A2 ~{ACT}/~{LPDDR}4_~{CKE}1_~{B}/~{DDR}3_~{CAS}/-/~{AC}1~{7} (io), 1A3 DDR4_A10/LPDDR4_CKE0_B/DDR3_A10/-/AC10 (io), 1A4 DDR4_BG0/LPDDR4_ODT1_CA_B/DDR3_~{WE}/-/AC20 (io), 1A5 ~{CS1} (io), 1A6 DDR4_BA1/LPDDR4_A4_B/DDR3_A12/LPDDR3_A4/AC19 (io), 1A7 DDR_DQ3_B/DDR4_DQU1_B/LPDDR4_DQ3_B/DDR3_DQ19/LPDDR3_DQ4 (io), 1A8 DDR_DQ2_B/DDR4_DQU3_B/LPDDR4_DQ2_B/DDR3_DQ18/LPDDR3_DQ6 (io), 1A9 DDR_DQ7_B/DDR4_DQU2_B/LPDDR4_DQ7_B/DDR3_DQ23/LPDDR3_DQ0 (io), 1A10 DDR_DQ5_B/DDR4_DQU6_B/LPDDR4_DQ5_B/DDR3_DQ21/LPDDR3_DQ3 (io), 1A11 DDR_DM1_B/DDR4_DML_B/LPDDR4_DM1_B/DDR3_DM3/LPDDR3_DM2 (io), 1B1 DDR4_A14_~{WE}/LPDDR4_A4_A/DDR3_A15/LPDDR3_A5/AC14 (io), 1B3 DDR4_A12/LPDDR4_A3_A/DDR3_BA2/-/AC12 (io), 1B5 ~{CS0} (io), 1B6 DDR4_A4/LPDDR4_A3_B/DDR3_BA1/LPDDR3_A3/AC4 (io), 1B7 DDR4_BA0/LPDDR4_A2_B/DDR3_A1/-/AC18 (io), 1B8 DDR_DM0_B/DDR4_DMU_B/LPDDR4_DM0_B/DDR3_DM2/LPDDR3_DM0 (io), 1B9 DDR_DQ6_B/DDR4_DQU4_B/LPDDR4_DQ6_B/DDR3_DQ22/LPDDR3_DQ7 (io), 1C1 DDR4_A15_~{CAS}/LPDDR4_A2_A/DDR3_A0/-/AC15 (io), 1C2 DDR4_BG1/LPDDR4_ODT1_CA_A/DDR3_BA0/-/AC21 (io), 1C3 DDR4_A3/LPDDR4_CKE1_A/DDR3_A3/-/AC3 (io), 1C7 ~{RESET} (io), 1C10 DDR_DQ14_B/DDR4_DQL1_B/LPDDR4_DQ14_B/DDR3_DQ30/LPDDR3_DQ20 (io), 1D2 DDR4_A1/-/DDR3_A2/-/AC1 (io), 1D4 DDR_AVSS (power), 1D5 DDRPHY_VDDQ_1 (power), 1D6 DDRPHY_VDDQ_2 (power), 1D7 DDRPHY_VDDQ_3 (power), 1D8 DDRPHY_VDDQ_4 (power), 1D9 DDRPHY_VDDQ_5 (power), 1E1 DDR_DQ7_A/DDR4_DQL1_A/LPDDR4_DQ7_A/DDR3_DQ7/LPDDR3_DQ11 (io), 1E2 DDR_DM0_A/DDR4_DML_A/LPDDR4_DM0_A/DDR3_DM0/LPDDR3_DM1 (io), 1E4 DDRPHY_VDDQ_6 (power), 1E6 DDRPHY_VDDQL_1 (power), 1E7 DDRPHY_VDDQL_2 (power), 1E9 DDRPHY_VDDQL_3 (power), 1F1 DDR_DQ14_A/DDR4_DQU6_A/LPDDR4_DQ14_A/DDR3_DQ14/LPDDR3_DQ30 (io), 1F2 DDR_DQ13_A/DDR4_DQU4_A/LPDDR4_DQ13_A/DDR3_DQ13/LPDDR3_DQ31 (io), 1F3 DDR_RZQ (io), 1F4 DDRPHY_VDDQ_7 (power), 1F5 DDRPHY_VDDQL_4 (power), 1G1 DDR_DM1_A/DDR4_DMU_A/LPDDR4_DM1_A/DDR3_DM1/LPDDR3_DM3 (io), 1G2 DDR_DQ15_A/DDR4_DQU0_A/LPDDR4_DQ15_A/DDR3_DQ15/LPDDR3_DQ27 (io), 1G4 DDRPHY_VDDQ_8 (power), 1G5 DDRPHY_VDDQL_5 (power), 1H3 DDR_VREFOUT (out), A3 ~{CS1} (io), A5 DDR4_CLKP/LPDDR4_CLKP_A/DDR3_CLKP/LPDDR3_CLKP/AC23 (io), A7 DDR4_A0/LPDDR4_CLKP_B/DDR3_A9/-/AC0 (io), A9 DDR4_A13/LPDDR4_A0_B/DDR3_A14/LPDDR3_A0/AC13 (io), A10 DDR4_A7/LPDDR4_ODT0_CA_B/DDR3_A8/-/AC7 (io), A12 DDR_DQS0N_B/DDR4_DQSU_N_B/LPDDR4_DQS0N_B/DDR3_DQS2N/LPDDR3_DQS0N (io), A13 DDR_DQS0P_B/DDR4_DQSU_P_B/LPDDR4_DQS0P_B/DDR3_DQS2P/LPDDR3_DQS0P (io), A15 DDR_DQ12_B/DDR4_DQL7_B/LPDDR4_DQ12_B/DDR3_DQ28/LPDDR3_DQ16 (io), A17 DDR_DQS1P_B/DDR4_DQSL_P_B/LPDDR4_DQS1P_B/DDR3_DQS3P/LPDDR3_DQS2P (io), A19 DDR_DQ9_B/DDR4_DQL2_B/LPDDR4_DQ9_B/DDR3_DQ25/LPDDR3_DQ19 (io), A20 DDR_DQ10_B/DDR4_DQL4_B/LPDDR4_DQ10_B/DDR3_DQ26/LPDDR3_DQ22 (io), B3 ~{CS0} (io), B4 DDR4_CKE/LPDDR4_CKE0_A/DDR3_CKE/LPDDR3_CKE/AC22 (io), B5 DDR4_CLKN/LPDDR4_CLKN_A/DDR3_CLKN/LPDDR3_CLKN/AC24 (io), B7 DDR4_A9/LPDDR4_CLKN_B/DDR3_A5/-/AC9 (io), B8 DDR4_A5/LPDDR4_A5_B/DDR3_A11/LPDDR3_A2/AC5 (io), B9 DDR4_A6/LPDDR4_A1_B/DDR3_A13/LPDDR3_A1/AC6 (io), B10 DDR_DQ1_B/DDR4_DQU5_B/LPDDR4_DQ1_B/DDR3_DQ17/LPDDR3_DQ5 (io), B12 DDR_DQ0_B/DDR4_DQU7_B/LPDDR4_DQ0_B/DDR3_DQ16/LPDDR3_DQ1 (io), B13 DDR_DQ4_B/DDR4_DQU0_B/LPDDR4_DQ4_B/DDR3_DQ20/LPDDR3_DQ2 (io), B15 DDR_DQ13_B/DDR4_DQL5_B/LPDDR4_DQ13_B/DDR3_DQ29/LPDDR3_DQ17 (io), B16 DDR_DQ15_B/DDR4_DQL3_B/LPDDR4_DQ15_B/DDR3_DQ31/LPDDR3_DQ21 (io), B17 DDR_DQS1N_B/DDR4_DQSL_N_B/LPDDR4_DQS1N_B/DDR3_DQS3N/LPDDR3_DQS2N (io), B19 DDR_DQ8_B/DDR4_DQL0_B/LPDDR4_DQ8_B/DDR3_DQ24/LPDDR3_DQ18 (io), B20 DDR_DQ11_B/DDR4_DQL6_B/LPDDR4_DQ11_B/DDR3_DQ27/LPDDR3_DQ23 (io), C1 DDR4_A2/LPDDR4_A1_A/DDR3_A4/LPDDR3_A6/AC2 (io), C2 DDR4_A11/LPDDR4_A0_A/DDR3_A7/LPDDR3_A8/AC11 (io), E1 DDR_DQ3_A/DDR4_DQL6_A/LPDDR4_DQ3_A/DDR3_DQ3/LPDDR3_DQ9 (io), E2 DDR4_A8/LPDDR4_ODT0_CA_A/DDR3_A6/LPDDR3_A9/AC8 (io), F1 DDR_DQ2_A/DDR4_DQL4_A/LPDDR4_DQ2_A/DDR3_DQ2/LPDDR3_DQ10 (io), F2 DDR_DQ1_A/DDR4_DQL2_A/LPDDR4_DQ1_A/DDR3_DQ1/LPDDR3_DQ14 (io), G2 DDR_DQ0_A/DDR4_DQL0_A/LPDDR4_DQ0_A/DDR3_DQ0/LPDDR3_DQ15 (io), H1 DDR_DQS0N_A/DDR4_DQSL_N_A/LPDDR4_DQS0N_A/DDR3_DQS0N/LPDDR3_DQS1N (io), H2 DDR_DQS0P_A/DDR4_DQSL_P_A/LPDDR4_DQS0P_A/DDR3_DQS0P/LPDDR3_DQS1P (io), K1 DDR_DQ5_A/DDR4_DQL5_A/LPDDR4_DQ5_A/DDR3_DQ5/LPDDR3_DQ12 (io), K2 DDR_DQ6_A/DDR4_DQL3_A/LPDDR4_DQ6_A/DDR3_DQ6/LPDDR3_DQ8 (io), M1 DDR_DQ12_A/DDR4_DQU2_A/LPDDR4_DQ12_A/DDR3_DQ12/LPDDR3_DQ26 (io), M2 DDR_DQ4_A/DDR4_DQL7_A/LPDDR4_DQ4_A/DDR3_DQ4/LPDDR3_DQ13 (io), N1 DDR_DQS1P_A/DDR4_DQSU_P_A/LPDDR4_DQS1P_A/DDR3_DQS1P/LPDDR3_DQS3P (io), N2 DDR_DQS1N_A/DDR4_DQSU_N_A/LPDDR4_DQS1N_A/DDR3_DQS1N/LPDDR3_DQS3N (io), P2 DDR_DQ8_A/DDR4_DQU3_A/LPDDR4_DQ8_A/DDR3_DQ8/LPDDR3_DQ25 (io), R1 DDR_DQ9_A/DDR4_DQU1_A/LPDDR4_DQ9_A/DDR3_DQ9/LPDDR3_DQ24 (io), R2 DDR_DQ10_A/DDR4_DQU7_A/LPDDR4_DQ10_A/DDR3_DQ10/LPDDR3_DQ28 (io), T2 DDR_DQ11_A/DDR4_DQU5_A/LPDDR4_DQ11_A/DDR3_DQ11/LPDDR3_DQ29 (io)
part F pins: 1C12 VDD_CPU_1 (power), 1C13 VCCIO2 (power), 1D11 VDD_CPU_2 (power), 1D12 VDD_CPU_3 (power), 1D13 VCCIO1 (power), 1D15 OTP_VCC18 (power), 1E11 VDD_CPU_4 (power), 1E12 VDD_CPU_5 (power), 1E13 VDD_CPU_6 (power), 1E16 VCCIO4 (power), 1F11 VDD_CPU_7 (power), 1F12 VDD_CPU_8 (power), 1F13 VDD_CPU_9 (power), 1F14 VDD_CPU_10 (power), 1F17 VCCIO3 (power), 1G13 VDD_CPU_11 (power), 1G15 VDD_NPU_1 (power), 1H7 VDD_LOGIC_1 (power), 1H8 VDD_LOGIC_2 (power), 1H9 VDD_LOGIC_3 (power), 1H10 VDD_LOGIC_4 (power), 1H14 VDD_NPU_2 (power), 1H15 VDD_NPU_3 (power), 1J7 VDD_LOGIC_5 (power), 1J10 VDD_LOGIC_6 (power), 1J14 VDD_NPU_4 (power), 1J15 VDD_NPU_5 (power), 1K7 VDD_LOGIC_7 (power), 1K10 VDD_LOGIC_8 (power), 1L4 VCCIO6_1 (power), 1L5 VCCIO6_2 (power), 1L7 VDD_LOGIC_9 (power), 1L8 VDD_GPU_1 (power), 1L9 VDD_GPU_2 (power), 1M7 VDD_GPU_3 (power), 1M8 VDD_GPU_4 (power), 1M9 VDD_GPU_5 (power), 1N5 VCCIO5_1 (power), 1N6 VCCIO5_2 (power), 1N8 VCCIO7 (power)
part G pins: 1F20 AVSS1_6 (power), 1G16 AVSS1_7 (power), 1G18 AVSS1_8 (power), 1G19 AVSS1_9 (power), 1G20 AVSS1_10 (power), 1J16 AVSS1_11 (power), 1J18 AVSS1_12 (power), 1K18 AVSS1_13 (power), 1L19 AVSS1_14 (power), 1M18 TVSS (power), 1N11 AVSS_9 (power), 1N12 AVSS_10 (power), 1P8 AVSS_11 (power), 1P10 AVSS_12 (power), 1P14 AVSS_13 (power), 1R8 AVSS_14 (power), 1R9 AVSS_15 (power), 1R11 AVSS_16 (power), 1R12 AVSS_17 (power), 1R13 AVSS_18 (power), 1R14 AVSS_19 (power), 1R15 AVSS_20 (power), 1T7 AVSS_21 (power), 1T8 AVSS_22 (power), 1T9 AVSS_23 (power), 1T10 AVSS_24 (power), 1T11 AVSS_25 (power), 1T12 AVSS_26 (power), 1T13 AVSS_27 (power), 1T14 AVSS_28 (power), 1T15 AVSS_29 (power), 1T16 AVSS_30 (power), 1T17 AVSS_31 (power), 1U12 AVSS_32 (power), 1U13 AVSS_33 (power), 1U15 AVSS_34 (power), 1U17 AVSS_35 (power), 1V7 AVSS_36 (power), 1V12 AVSS_37 (power), 1V13 AVSS_38 (power), 1V18 AVSS_39 (power), AP13 AVSS_1 (power), AP16 AVSS_2 (power), AP19 AVSS_3 (power), AP22 AVSS_4 (power), AP25 AVSS_5 (power), AP28 AVSS_6 (power), AP31 AVSS_7 (power), AP34 AVSS_8 (power), H37 AVSS1_1 (power), L37 AVSS1_2 (power), P37 AVSS1_3 (power), U37 AVSS1_4 (power), Y37 AVSS1_5 (power)
part H pins: 1B10 VSS_30 (power), 1B11 VSS_31 (power), 1B15 VSS_32 (power), 1B19 VSS_33 (power), 1C4 VSS_34 (power), 1C5 VSS_35 (power), 1C6 VSS_36 (power), 1C8 VSS_37 (power), 1C9 VSS_38 (power), 1C14 VSS_39 (power), 1C16 VSS_40 (power), 1C18 VSS_41 (power), 1D1 VSS_42 (power), 1D3 VSS_43 (power), 1D10 VSS_44 (power), 1D14 VSS_45 (power), 1E3 VSS_46 (power), 1E8 VSS_47 (power), 1E10 VSS_48 (power), 1E14 VSS_49 (power), 1E15 VSS_50 (power), 1E17 VSS_51 (power), 1F6 VSS_52 (power), 1F7 VSS_53 (power), 1F8 VSS_54 (power), 1F9 VSS_55 (power), 1F10 VSS_56 (power), 1F15 VSS_57 (power), 1F16 VSS_58 (power), 1G3 VSS_59 (power), 1G6 VSS_60 (power), 1G7 VSS_61 (power), 1G8 VSS_62 (power), 1G9 VSS_63 (power), 1G10 VSS_64 (power), 1G11 VSS_65 (power), 1G12 VSS_66 (power), A1 VSS_1 (power), A2 VSS_2 (power), A38 VSS_3 (power), AA2 VSS_18 (power), AC37 VSS_24 (power), AD2 VSS_19 (power), AE37 VSS_25 (power), AH37 VSS_26 (power), AL37 VSS_27 (power), AP2 VSS_20 (power), AP8 VSS_22 (power), AP37 VSS_28 (power), AR1 VSS_21 (power), AR38 VSS_29 (power), B1 VSS_4 (power), B2 VSS_5 (power), B6 VSS_6 (power), B11 VSS_7 (power), B14 VSS_8 (power), B18 VSS_9 (power), B21 VSS_10 (power), B28 VSS_11 (power), B31 VSS_12 (power), D2 VSS_13 (power), E37 VSS_23 (power), J2 VSS_14 (power), L2 VSS_15 (power), U2 VSS_16 (power), W2 VSS_17 (power)
part I pins: 1G14 VSS_67 (power), 1H1 VSS_68 (power), 1H2 VSS_69 (power), 1H6 VSS_70 (power), 1H11 VSS_71 (power), 1H12 VSS_72 (power), 1H13 VSS_73 (power), 1J1 VSS_74 (power), 1J6 VSS_75 (power), 1J8 VSS_76 (power), 1J9 VSS_77 (power), 1J11 VSS_78 (power), 1J12 VSS_79 (power), 1J13 VSS_80 (power), 1K2 VSS_81 (power), 1K3 VSS_82 (power), 1K4 VSS_83 (power), 1K5 VSS_84 (power), 1K6 VSS_85 (power), 1K8 VSS_86 (power), 1K9 VSS_87 (power), 1K11 VSS_88 (power), 1K12 VSS_89 (power), 1K13 VSS_90 (power), 1K14 VSS_91 (power), 1K15 VSS_92 (power), 1L3 VSS_93 (power), 1L6 VSS_94 (power), 1L10 VSS_95 (power), 1L11 VSS_96 (power), 1L12 VSS_97 (power), 1L13 VSS_98 (power), 1L14 VSS_99 (power), 1L15 VSS_100 (power), 1M3 VSS_101 (power), 1M4 VSS_102 (power), 1M5 VSS_103 (power), 1M6 VSS_104 (power), 1M10 VSS_105 (power), 1M11 VSS_106 (power), 1M12 VSS_107 (power), 1M13 VSS_108 (power), 1M14 VSS_109 (power), 1M15 VSS_110 (power), 1M16 VSS_111 (power), 1M17 VSS_112 (power), 1M20 VSS_113 (power), 1N3 VSS_114 (power), 1N4 VSS_115 (power), 1N7 VSS_116 (power), 1P1 VSS_117 (power), 1P5 VSS_118 (power), 1P6 VSS_119 (power), 1P7 VSS_120 (power), 1P15 VSS_121 (power), 1R3 VSS_122 (power), 1R4 VSS_123 (power), 1R5 VSS_124 (power), 1R6 VSS_125 (power), 1R7 VSS_126 (power), 1T3 VSS_127 (power), 1T5 VSS_128 (power), 1U2 VSS_129 (power), 1V1 VSS_130 (power), 1V4 VSS_131 (power)